# Altium schematic symbol library qinshiysb-STM32F4.SchLib: 135 symbols (part 27 of 29)
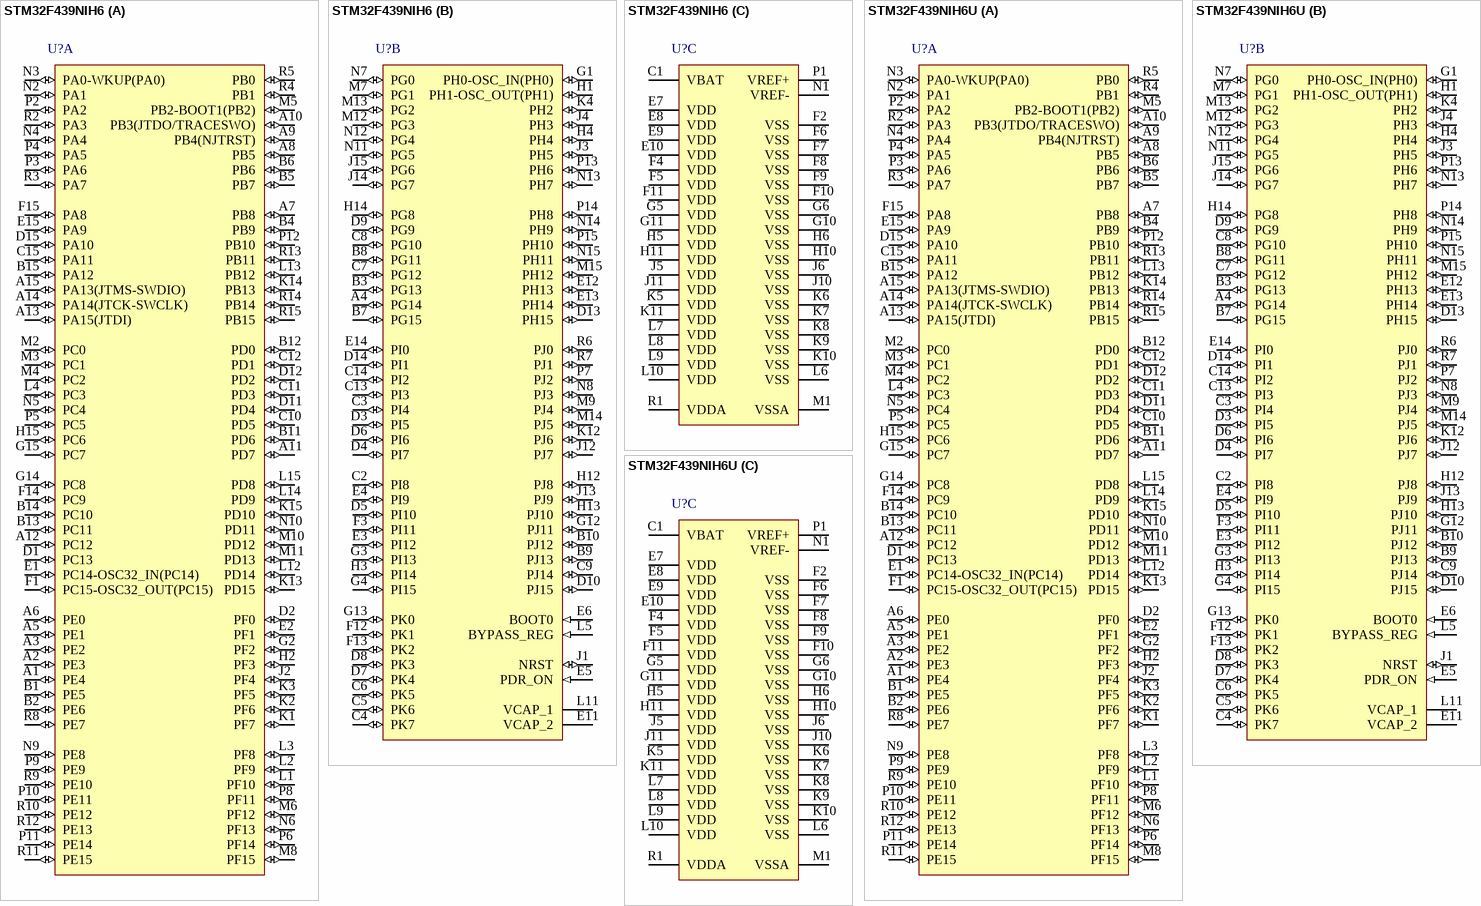
[diagram p65: symbols STM32F439NIH6 to STM32F439NIH6U]

## STM32F439NIH6U
designator U?
ARM Cortex-M4 32-bit MCU+FPU, 225 DMIPS, 2048 kB Flash, 256 kB Internal RAM, 168 I/Os, 216-pin TFBGA, -40 to 85 degC, Tray; Manufacturer: STMicroelectronics; PartNumber: STM32F439NIH6U; D/A Converter: 2x12-bit; FLASH Size (Prog) (kB): 2048; I/Os (High Current): 168; Internal RAM Size (kB): 256; Operating Frequency(F) (Processor speed) (MHz): 180; Supply Voltage(Vcc) max (V): 3.6; Supply Voltage(Vcc) min (V): 1.8; DatasheetVersion: Rev. 2; PackageVersion: Rev. 2, 05/2013; PackageReference: TFBGA216; PackageDescription: 216-Ball Ultra Thin Fine Pitch Ball Grid Array, 13 x 13 x 0.8 mm Body, 0.8 mm Pitch; Supplier 1: Mouser; Supplier Part Number 1: N/A; Core: ARM Cortex-M4; Packing: Tray; Mounting Technology: Surface Mount; ComponentLink1Description: Manufacturer URL; ComponentLink1URL: http://www.st.com/web/en/home.html; ComponentLink2Description: Datasheet; ComponentLink2URL: http://www.st.com/st-web-ui/static/active/en/resource/technical/document/data_brief/DM00055510.pdf; ComponentLink3Description: Package Specification; ComponentLink3URL: http://www.st.com/st-web-ui/static/active/en/resource/technical/document/data_brief/DM00053488.pdf
footprint STM-TFBGA216 (BGA, 216-Balls, Body 13x13mm, Pitch 0.8mm)
part A pins: A1 PE4 (io) "PE4/TRACED1,SPI4_NSS,SAI1_FS_A,FMC_A20,DCMI_D4,LCD_B0,EVENTOUT", A2 PE3 (io) "PE3/TRACED0,SAI1_SD_B,FMC_A19,EVENTOUT", A3 PE2 (io) "PE2/TRACECLK,SPI4_SCK,SAI1_MCLK_A,ETH_MII_TXD3,FMC_A23,EVENTOUT", A5 PE1 (io) "PE1/UART8_TX,FMC_NBL1,DCMI_D3,EVENTOUT", A6 PE0 (io) "PE0/TIM4_ETR,UART8_RX,FMC_NBL0,DCMI_D2,EVENTOUT", A7 PB8 (io) "PB8/TIM4_CH3,TIM10_CH1,I2C1_SCL,CAN1_RX,ETH_MII_TXD3,SDIO_D4,DCMI_D6,LCD_B6,EVENTOUT", A8 PB5 (io) "PB5/TIM3_CH2,I2C1_SMBA,SPI1_MOSI,SPI3_MOSI/I2S3_SD,CAN2_RX,OTG_HS_ULPI_D7,ETH_PPS_OUT,FMC_SDCKE1,DCMI_D10,EVENTOUT", A9 PB4(NJTRST) (io) "PB4(NJTRST)/NJTRST,TIM3_CH1,SPI1_MISO,SPI3_MISO,I2S3ext_SD,EVENTOUT", A10 PB3(JTDO/TRACESWO) (io) "PB3(JTDO/TRACESWO)/JTDO/TRACESWO,TIM2_CH2,SPI1_SCK,SPI3_SCK/I2S3_CK,EVENTOUT", A11 PD7 (io) "PD7/USART2_CK,FMC_NE1/FMC_NCE2,EVENTOUT", A12 PC12 (io) "PC12/SPI3_MOSI/I2S3_SD,USART3_CK,UART5_TX,SDIO_CK,DCMI_D9,EVENTOUT", A13 PA15(JTDI) (io) "PA15(JTDI)/JTDI,TIM2_CH1/TIM2_ETR,SPI1_NSS,SPI3_NSS/I2S3_WS,EVENTOUT", A14 PA14(JTCK-SWCLK) (io) "PA14(JTCK-SWCLK)/JTCK-SWCLK/EVENTOUT", A15 PA13(JTMS-SWDIO) (io) "PA13(JTMS-SWDIO)/JTMS-SWDIO,EVENTOUT", B1 PE5 (io) "PE5/TRACED2,TIM9_CH1,SPI4_MISO,SAI1_SCK_A,FMC_A21,DCMI_D6,LCD_G0,EVENTOUT", B2 PE6 (io) "PE6/TRACED3,TIM9_CH2,SPI4_MOSI,SAI1_SD_A,FMC_A22,DCMI_D7,LCD_G1,EVENTOUT", B4 PB9 (io) "PB9/TIM4_CH4,TIM11_CH1,I2C1_SDA,SPI2_NSS/I2S2_WS,CAN1_TX,SDIO_D5,DCMI_D7,LCD_B7,EVENTOUT", B5 PB7 (io) "PB7/TIM4_CH2,I2C1_SDA,USART1_RX,FMC_NL,DCMI_VSYNC,EVENTOUT", B6 PB6 (io) "PB6/TIM4_CH1,I2C1_SCL,USART1_TX,CAN2_TX,FMC_SDNE1,DCMI_D5,EVENTOUT", B11 PD6 (io) "PD6/SPI3_MOSI/I2S3_SD,SAI1_SD_A,USART2_RX,FMC_NWAIT,DCMI_D10,LCD_B2,EVENTOUT", B12 PD0 (io) "PD0/CAN1_RX,FMC_D2,EVENTOUT", B13 PC11 (io) "PC11/I2S3ext_SD,SPI3_MISO,USART3_RX,UART4_RX,SDIO_D3,DCMI_D4,EVENTOUT", B14 PC10 (io) "PC10/SPI3_SCK/I2S3_CK,USART3_TX,UART4_TX,SDIO_D2,DCMI_D8,LCD_R2,EVENTOUT", B15 PA12 (io) "PA12/TIM1_ETR,USART1_RTS,CAN1_TX,LCD_R5,EVENTOUT/OTG_FS_DP", C10 PD5 (io) "PD5/USART2_TX,FMC_NWE,EVENTOUT", C11 PD3 (io) "PD3/SPI2_SCK/I2S2_CK,USART2_CTS,FMC_CLK,DCMI_D5,LCD_G7,EVENTOUT", C12 PD1 (io) "PD1/CAN1_TX,FMC_D3,EVENTOUT", C15 PA11 (io) "PA11/TIM1_CH4,USART1_CTS,CAN1_RX,LCD_R4,EVENTOUT/OTG_FS_DM", D1 PC13 (io) "PC13/EVENTOUT/TAMP_1", D2 PF0 (io) "PF0/I2C2_SDA,FMC_A0,EVENTOUT", D11 PD4 (io) "PD4/USART2_RTS,FMC_NOE,EVENTOUT", D12 PD2 (io) "PD2/TIM3_ETR,UART5_RX,SDIO_CMD,DCMI_D11,EVENTOUT", D15 PA10 (io) "PA10/TIM1_CH3,USART1_RX,OTG_FS_ID,DCMI_D1,EVENTOUT", E1 PC14-OSC32_IN(PC14) (io) "PC14-OSC32_IN(PC14)/EVENTOUT/OSC32_IN", E2 PF1 (io) "PF1/I2C2_SCL,FMC_A1,EVENTOUT", E15 PA9 (io) "PA9/TIM1_CH2,I2C3_SMBA,USART1_TX,DCMI_D0,EVENTOUT/OTG_FS_VBUS", F1 PC15-OSC32_OUT(PC15) (io) "PC15-OSC32_OUT(PC15)/EVENTOUT/OSC32_OUT", F14 PC9 (io) "PC9/MCO2,TIM3_CH4,TIM8_CH4,I2C3_SDA,I2S_CKIN,SDIO_D1,DCMI_D3,EVENTOUT", F15 PA8 (io) "PA8/MCO1,TIM1_CH1,I2C3_SCL,USART1_CK,OTG_FS_SOF,LCD_R6,EVENTOUT", G2 PF2 (io) "PF2/I2C2_SMBA,FMC_A2,EVENTOUT", G14 PC8 (io) "PC8/TIM3_CH3,TIM8_CH3,USART6_CK,SDIO_D0,DCMI_D2,EVENTOUT", G15 PC7 (io) "PC7/TIM3_CH2,TIM8_CH2,I2S3_MCK,USART6_RX,SDIO_D7,DCMI_D1,LCD_G6,EVENTOUT", H2 PF3 (io) "PF3/FMC_A3,EVENTOUT/ADC3_IN9", H15 PC6 (io) "PC6/TIM3_CH1,TIM8_CH1,I2S2_MCK,USART6_TX,SDIO_D6,DCMI_D0,LCD_HSYNC,EVENTOUT", J2 PF4 (io) "PF4/FMC_A4,EVENTOUT/ADC3_IN14", K1 PF7 (io) "PF7/TIM11_CH1,SPI5_SCK,SAI1_MCLK_B,UART7_TX,FMC_NREG,EVENTOUT/ADC3_IN5", K2 PF6 (io) "PF6/TIM10_CH1,SPI5_NSS,SAI1_SD_B,UART7_RX,FMC_NIORD,EVENTOUT/ADC3_IN4", K3 PF5 (io) "PF5/FMC_A5,EVENTOUT/ADC3_IN15", K13 PD15 (io) "PD15/TIM4_CH4,FMC_D1,EVENTOUT", K14 PB13 (io) "PB13/TIM1_CH1N,SPI2_SCK/I2S2_CK,USART3_CTS,CAN2_TX,OTG_HS_ULPI_D6,ETH_MII_TXD1/ETH_RMII_TXD1,EVENTOUT/OTG_HS_VBUS", K15 PD10 (io) "PD10/USART3_CK,FMC_D15,LCD_B3,EVENTOUT", L1 PF10 (io) "PF10/FMC_INTR,DCMI_D11,LCD_DE,EVENTOUT/ADC3_IN8", L2 PF9 (io) "PF9/SPI5_MOSI,SAI1_FS_B,TIM14_CH1,FMC_CD,EVENTOUT/ADC3_IN7", L3 PF8 (io) "PF8/SPI5_MISO,SAI1_SCK_B,TIM13_CH1,FMC_NIOWR,EVENTOUT/ADC3_IN6", L4 PC3 (io) "PC3/SPI2_MOSI/I2S2_SD,OTG_HS_ULPI_NXT,ETH_MII_TX_CLK,FMC_SDCKE0,EVENTOUT/ADC123_IN13", L12 PD14 (io) "PD14/TIM4_CH3,FMC_D0,EVENTOUT", L13 PB12 (io) "PB12/TIM1_BKIN,I2C2_SMBA,SPI2_NSS/I2S2_WS,USART3_CK,CAN2_RX,OTG_HS_ULPI_D5,ETH_MII_TXD0/ETH_RMII_TXD0,OTG_HS_ID,EVENTOUT", L14 PD9 (io) "PD9/USART3_RX,FMC_D14,EVENTOUT", L15 PD8 (io) "PD8/USART3_TX,FMC_D13,EVENTOUT", M2 PC0 (io) "PC0/OTG_HS_ULPI_STP,FMC_SDNWE,EVENTOUT/ADC123_IN10", M3 PC1 (io) "PC1/ETH_MDC,EVENTOUT/ADC123_IN11", M4 PC2 (io) "PC2/SPI2_MISO,I2S2ext_SD,OTG_HS_ULPI_DIR,ETH_MII_TXD2,FMC_SDNE0,EVENTOUT/ADC123_IN12", M5 PB2-BOOT1(PB2) (io) "PB2-BOOT1(PB2)/EVENTOUT", M6 PF12 (io) "PF12/FMC_A6,EVENTOUT", M8 PF15 (io) "PF15/FMC_A9,EVENTOUT", M10 PD12 (io) "PD12/TIM4_CH1,USART3_RTS,FMC_A17,EVENTOUT", M11 PD13 (io) "PD13/TIM4_CH2,FMC_A18,EVENTOUT", N2 PA1 (io) "PA1/TIM2_CH2,TIM5_CH2,USART2_RTS,UART4_RX,ETH_MII_RX_CLK/ETH_RMII_REF_CLK,EVENTOUT/ADC123_IN1", N3 PA0-WKUP(PA0) (io) "PA0-WKUP(PA0)/TIM2_CH1/TIM2_ETR,TIM5_CH1,TIM8_ETR,USART2_CTS,UART4_TX,ETH_MII_CRS,EVENTOUT/ADC123_IN0/WKUP", N4 PA4 (io) "PA4/SPI1_NSS,SPI3_NSS/I2S3_WS,USART2_CK,OTG_HS_SOF,DCMI_HSYNC,LCD_VSYNC,EVENTOUT/ADC12_IN4/DAC_OUT1", N5 PC4 (io) "PC4/ETH_MII_RXD0/ETH_RMII_RXD0,EVENTOUT/ADC12_IN14", N6 PF13 (io) "PF13/FMC_A7,EVENTOUT", N9 PE8 (io) "PE8/TIM1_CH1N,UART7_TX,FMC_D5,EVENTOUT", N10 PD11 (io) "PD11/USART3_CTS,FMC_A16,EVENTOUT", P2 PA2 (io) "PA2/TIM2_CH3,TIM5_CH3,TIM9_CH1,USART2_TX,ETH_MDIO,EVENTOUT/ADC123_IN2", P3 PA6 (io) "PA6/TIM1_BKIN,TIM3_CH1,TIM8_BKIN,SPI1_MISO,TIM13_CH1,DCMI_PIXCLK,LCD_G2,EVENTOUT/ADC12_IN6", P4 PA5 (io) "PA5/TIM2_CH1/TIM2_ETR,TIM8_CH1N,SPI1_SCK,OTG_HS_ULPI_CK,EVENTOUT/ADC12_IN5/DAC_OUT2", P5 PC5 (io) "PC5/ETH_MII_RXD1/ETH_RMII_RXD1,EVENTOUT/ADC12_IN15", P6 PF14 (io) "PF14/FMC_A8,EVENTOUT", P8 PF11 (io) "PF11/SPI5_MOSI,FMC_SDNRAS,DCMI_D12,EVENTOUT", P9 PE9 (io) "PE9/TIM1_CH1,FMC_D6,EVENTOUT", P10 PE11 (io) "PE11/TIM1_CH2,SPI4_NSS,FMC_D8,LCD_G3,EVENTOUT", P11 PE14 (io) "PE14/TIM1_CH4,SPI4_MOSI,FMC_D11,LCD_CLK,EVENTOUT", P12 PB10 (io) "PB10/TIM2_CH3,I2C2_SCL,SPI2_SCK/I2S2_CK,USART3_TX,OTG_HS_ULPI_D3,ETH_MII_RX_ER,LCD_G4,EVENTOUT", R2 PA3 (io) "PA3/TIM2_CH4,TIM5_CH4,TIM9_CH2,USART2_RX,OTG_HS_ULPI_D0,ETH_MII_COL,LCD_B5,EVENTOUT/ADC123_IN3", R3 PA7 (io) "PA7/TIM1_CH1N,TIM3_CH2,TIM8_CH1N,SPI1_MOSI,TIM14_CH1,ETH_MII_RX_DV/ETH_RMII_CRS_DV,EVENTOUT/ADC12_IN7", R4 PB1 (io) "PB1/TIM1_CH3N,TIM3_CH4,TIM8_CH3N,LCD_R6,OTG_HS_ULPI_D2,ETH_MII_RXD3,EVENTOUT/ADC12_IN9", R5 PB0 (io) "PB0/TIM1_CH2N,TIM3_CH3,TIM8_CH2N,LCD_R3,OTG_HS_ULPI_D1,ETH_MII_RXD2,EVENTOUT/ADC12_IN8", R8 PE7 (io) "PE7/TIM1_ETR,UART7_RX,FMC_D4,EVENTOUT", R9 PE10 (io) "PE10/TIM1_CH2N,FMC_D7,EVENTOUT", R10 PE12 (io) "PE12/TIM1_CH3N,SPI4_SCK,FMC_D9,LCD_B4,EVENTOUT", R11 PE15 (io) "PE15/TIM1_BKIN,FMC_D12,LCD_R7,EVENTOUT", R12 PE13 (io) "PE13/TIM1_CH3,SPI4_MISO,FMC_D10,LCD_DE,EVENTOUT", R13 PB11 (io) "PB11/TIM2_CH4,I2C2_SDA,USART3_RX,OTG_HS_ULPI_D4,ETH_MII_TX_EN/ETH_RMII_TX_EN,LCD_G5,EVENTOUT", R14 PB14 (io) "PB14/TIM1_CH2N,TIM8_CH2N,SPI2_MISO,I2S2ext_SD,USART3_RTS,TIM12_CH1,EVENTOUT/OTG_HS_DM", R15 PB15 (io) "PB15/RTC_REFIN,TIM1_CH3N,TIM8_CH3N,SPI2_MOSI/I2S2_SD,TIM12_CH2,EVENTOUT/OTG_HS_DP"
part B pins: A4 PG14 (io) "PG14/SPI6_MOSI,USART6_TX,ETH_MII_TXD1/ETH_RMII_TXD1,FMC_A25,EVENTOUT", B3 PG13 (io) "PG13/SPI6_SCK,USART6_CTS,ETH_MII_TXD0/ETH_RMII_TXD0,FMC_A24,EVENTOUT", B7 PG15 (io) "PG15/USART6_CTS,FMC_SDNCAS,DCMI_D13,EVENTOUT", B8 PG11 (io) "PG11/ETH_MII_TX_EN/ETH_RMII_TX_EN,FMC_NCE4_2,DCMI_D3,LCD_B3,EVENTOUT", B9 PJ13 (io) "PJ13/LCD_B1,EVENTOUT", B10 PJ12 (io) "PJ12/LCD_B0,EVENTOUT", C2 PI8 (io) "PI8/EVENTOUT/TAMP_2", C3 PI4 (io) "PI4/TIM8_BKIN,FMC_NBL2,DCMI_D5,LCD_B4,EVENTOUT", C4 PK7 (io) "PK7/LCD_DE,EVENTOUT", C5 PK6 (io) "PK6/LCD_B7,EVENTOUT", C6 PK5 (io) "PK5/LCD_B6,EVENTOUT", C7 PG12 (io) "PG12/SPI6_MISO,USART6_RTS,LCD_B4,FMC_NE4,LCD_B1,EVENTOUT", C8 PG10 (io) "PG10/LCD_G3,FMC_NCE4_1/FMC_NE3,DCMI_D2,LCD_B2,EVENTOUT", C9 PJ14 (io) "PJ14/LCD_B2,EVENTOUT", C13 PI3 (io) "PI3/TIM8_ETR,SPI2_MOSI/I2S2_SD,FMC_D27,DCMI_D10,EVENTOUT", C14 PI2 (io) "PI2/TIM8_CH4,SPI2_MISO,I2S2ext_SD,FMC_D26,DCMI_D9,LCD_G7,EVENTOUT", D3 PI5 (io) "PI5/TIM8_CH1,FMC_NBL3,DCMI_VSYNC,LCD_B5,EVENTOUT", D4 PI7 (io) "PI7/TIM8_CH3,FMC_D29,DCMI_D7,LCD_B7,EVENTOUT", D5 PI10 (io) "PI10/ETH_MII_RX_ER,FMC_D31,LCD_HSYNC,EVENTOUT", D6 PI6 (io) "PI6/TIM8_CH2,FMC_D28,DCMI_D6,LCD_B6,EVENTOUT", D7 PK4 (io) "PK4/LCD_B5,EVENTOUT", D8 PK3 (io) "PK3/LCD_B4,EVENTOUT", D9 PG9 (io) "PG9/USART6_RX,FMC_NE2/FMC_NCE3,EVENTOUT", D10 PJ15 (io) "PJ15/LCD_B3,EVENTOUT", D13 PH15 (io) "PH15/TIM8_CH3N,FMC_D23,DCMI_D11,LCD_G4,EVENTOUT", D14 PI1 (io) "PI1/SPI2_SCK/I2S2_CK,FMC_D25,DCMI_D8,LCD_G6,EVENTOUT", E3 PI12 (io) "PI12/LCD_HSYNC,EVENTOUT", E4 PI9 (io) "PI9/CAN1_RX,FMC_D30,LCD_VSYNC,EVENTOUT", E5 PDR_ON (in), E6 BOOT0 (in) "BOOT0/VPP", E11 VCAP_2 (power), E12 PH13 (io) "PH13/TIM8_CH1N,CAN1_TX,FMC_D21,LCD_G2,EVENTOUT", E13 PH14 (io) "PH14/TIM8_CH2N,FMC_D22,DCMI_D4,LCD_G3,EVENTOUT", E14 PI0 (io) "PI0/TIM5_CH4,SPI2_NSS/I2S2_WS,FMC_D24,DCMI_D13,LCD_G5,EVENTOUT", F3 PI11 (io) "PI11/OTG_HS_ULPI_DIR,EVENTOUT", F12 PK1 (io) "PK1/LCD_G6,EVENTOUT", F13 PK2 (io) "PK2/LCD_G7,EVENTOUT", G1 PH0-OSC_IN(PH0) (io) "PH0-OSC_IN(PH0)/EVENTOUT/OSC_IN", G3 PI13 (io) "PI13/LCD_VSYNC,EVENTOUT", G4 PI15 (io) "PI15/LCD_R0,EVENTOUT", G12 PJ11 (io) "PJ11/LCD_G4,EVENTOUT", G13 PK0 (io) "PK0/LCD_G5,EVENTOUT", H1 PH1-OSC_OUT(PH1) (io) "PH1-OSC_OUT(PH1)/EVENTOUT/OSC_OUT", H3 PI14 (io) "PI14/LCD_CLK,EVENTOUT", H4 PH4 (io) "PH4/I2C2_SCL,OTG_HS_ULPI_NXT,EVENTOUT", H12 PJ8 (io) "PJ8/LCD_G1,EVENTOUT", H13 PJ10 (io) "PJ10/LCD_G3,EVENTOUT", H14 PG8 (io) "PG8/SPI6_NSS,USART6_RTS,ETH_PPS_OUT,FMC_SDCLK,EVENTOUT", J1 NRST (io), J3 PH5 (io) "PH5/I2C2_SDA,SPI5_NSS,FMC_SDNWE,EVENTOUT", J4 PH3 (io) "PH3/ETH_MII_COL,FMC_SDNE0,LCD_R1,EVENTOUT", J12 PJ7 (io) "PJ7/LCD_G0,EVENTOUT", J13 PJ9 (io) "PJ9/LCD_G2,EVENTOUT", J14 PG7 (io) "PG7/USART6_CK,FMC_INT3,DCMI_D13,LCD_CLK,EVENTOUT", J15 PG6 (io) "PG6/FMC_INT2,DCMI_D12,LCD_R7,EVENTOUT", K4 PH2 (io) "PH2/ETH_MII_CRS,FMC_SDCKE0,LCD_R0,EVENTOUT", K12 PJ6 (io) "PJ6/LCD_R7,EVENTOUT", L5 BYPASS_REG (in), L11 VCAP_1 (power), M7 PG1 (io) "PG1/FMC_A11,EVENTOUT", M9 PJ4 (io) "PJ4/LCD_R5,EVENTOUT", M12 PG3 (io) "PG3/FMC_A13,EVENTOUT", M13 PG2 (io) "PG2/FMC_A12,EVENTOUT", M14 PJ5 (io) "PJ5/LCD_R6,EVENTOUT", M15 PH12 (io) "PH12/TIM5_CH3,FMC_D20,DCMI_D3,LCD_R6,EVENTOUT", N7 PG0 (io) "PG0/FMC_A10,EVENTOUT", N8 PJ3 (io) "PJ3/LCD_R4,EVENTOUT", N11 PG5 (io) "PG5/FMC_A15/FMC_BA1,EVENTOUT", N12 PG4 (io) "PG4/FMC_A14/FMC_BA0,EVENTOUT", N13 PH7 (io) "PH7/I2C3_SCL,SPI5_MISO,ETH_MII_RXD3,FMC_SDCKE1,DCMI_D9,EVENTOUT", N14 PH9 (io) "PH9/I2C3_SMBA,TIM12_CH2,FMC_D17,DCMI_D0,LCD_R3,EVENTOUT", N15 PH11 (io) "PH11/TIM5_CH2,FMC_D19,DCMI_D2,LCD_R5,EVENTOUT", P7 PJ2 (io) "PJ2/LCD_R3,EVENTOUT", P13 PH6 (io) "PH6/I2C2_SMBA,SPI5_SCK,TIM12_CH1,ETH_MII_RXD2,FMC_SDNE1,DCMI_D8,EVENTOUT", P14 PH8 (io) "PH8/I2C3_SDA,FMC_D16,DCMI_HSYNC,LCD_R2,EVENTOUT", P15 PH10 (io) "PH10/TIM5_CH1,FMC_D18,DCMI_D1,LCD_R4,EVENTOUT", R6 PJ0 (io) "PJ0/LCD_R1,EVENTOUT", R7 PJ1 (io) "PJ1/LCD_R2,EVENTOUT"
part C pins: C1 VBAT (power), E7 VDD (power), E8 VDD (power), E9 VDD (power), E10 VDD (power), F2 VSS (power), F4 VDD (power), F5 VDD (power), F6 VSS (power), F7 VSS (power), F8 VSS (power), F9 VSS (power), F10 VSS (power), F11 VDD (power), G5 VDD (power), G6 VSS (power), G10 VSS (power), G11 VDD (power), H5 VDD (power), H6 VSS (power), H10 VSS (power), H11 VDD (power), J5 VDD (power), J6 VSS (power), J10 VSS (power), J11 VDD (power), K5 VDD (power), K6 VSS (power), K7 VSS (power), K8 VSS (power), K9 VSS (power), K10 VSS (power), K11 VDD (power), L6 VSS (power), L7 VDD (power), L8 VDD (power), L9 VDD (power), L10 VDD (power), M1 VSSA (power), N1 VREF- (power), P1 VREF+ (power), R1 VDDA (power)

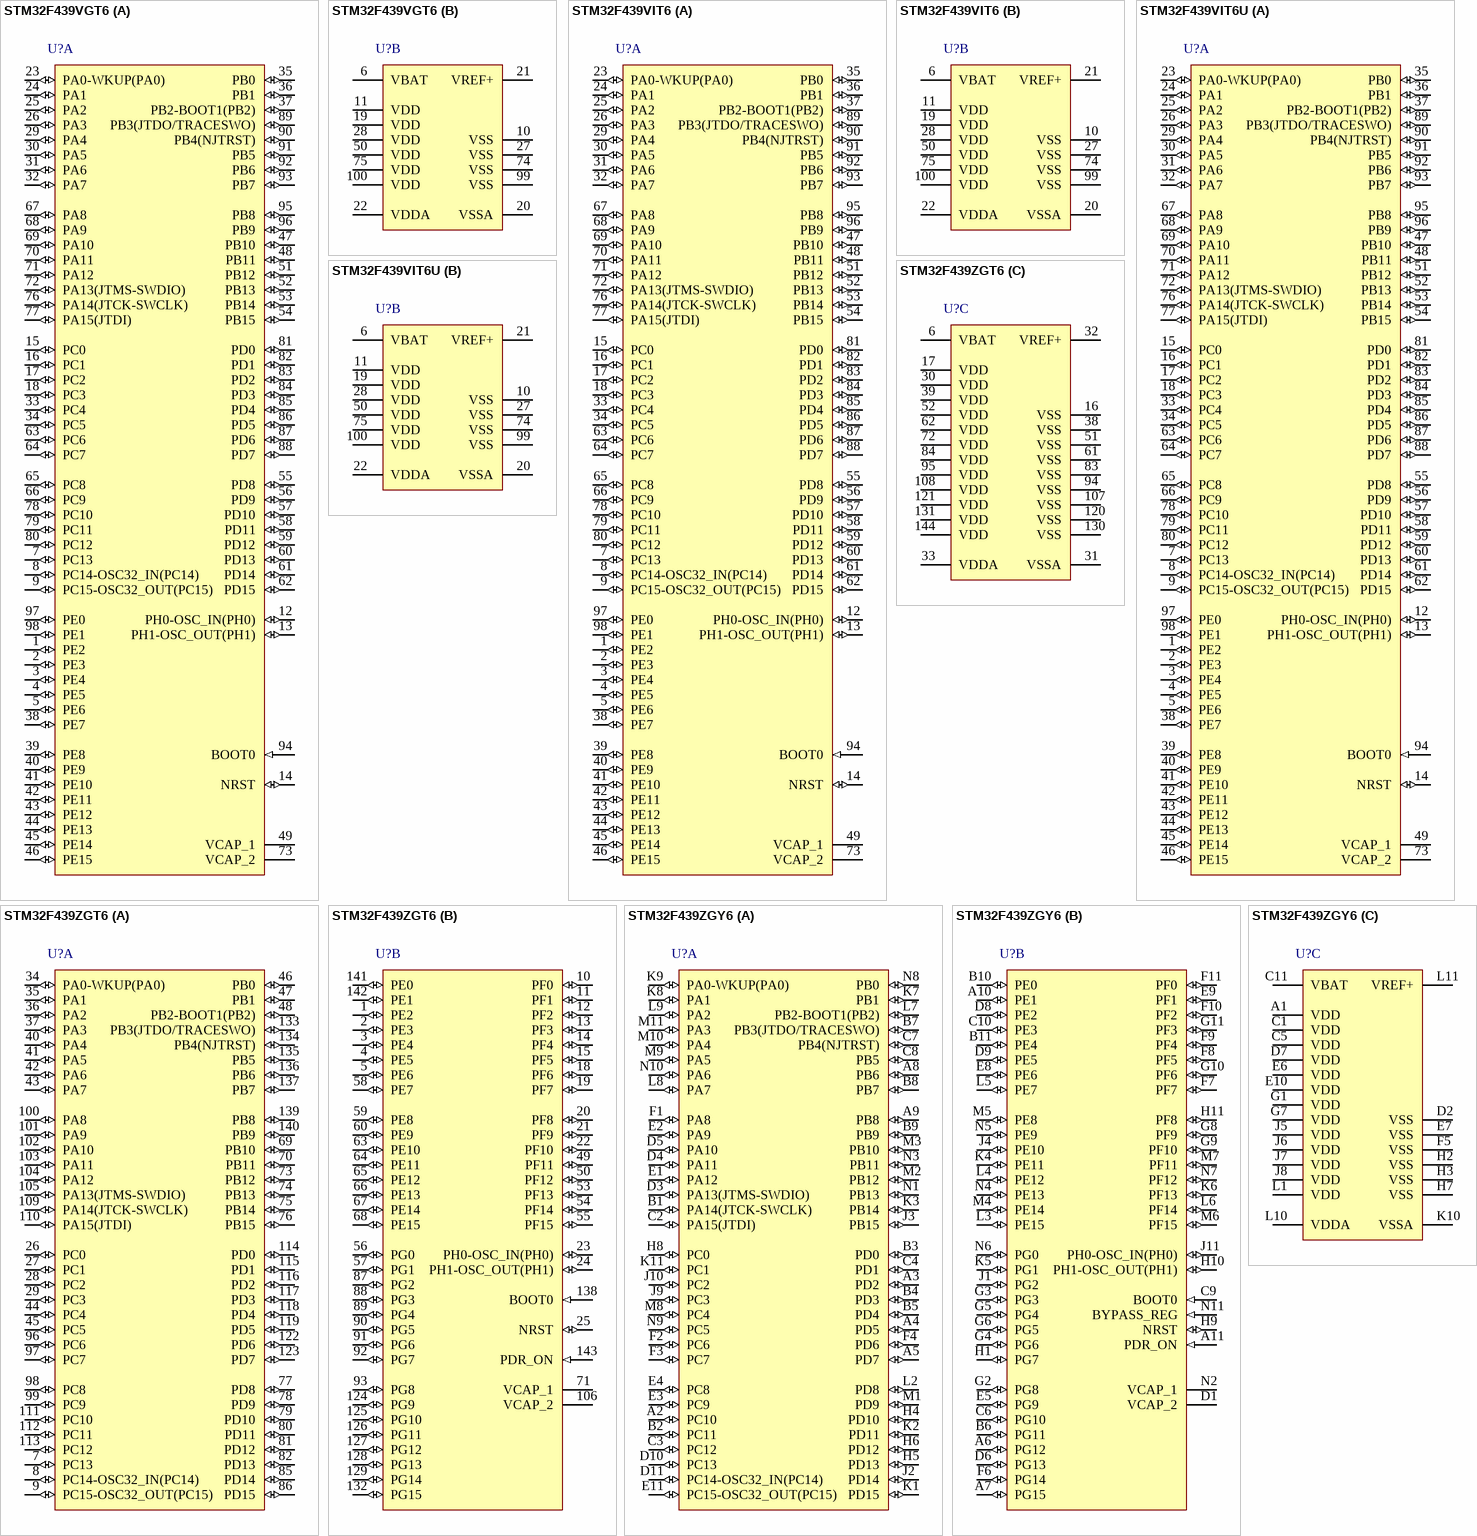
[diagram p37: symbols STM32F439VGT6 to STM32F439ZGY6]

## STM32F439VGT6
designator U?
ARM Cortex-M4 32-bit MCU+FPU, 225 DMIPS, 1024 kB Flash, 256 kB Internal RAM, 82 I/Os, 100-pin LQFP, -40 to 85 degC, Tray; Manufacturer: STMicroelectronics; PartNumber: STM32F439VGT6; D/A Converter: 2x12-bit; FLASH Size (Prog) (kB): 1024; I/Os (High Current): 82; Internal RAM Size (kB): 256; Operating Frequency(F) (Processor speed) (MHz): 180; Supply Voltage(Vcc) max (V): 3.6; Supply Voltage(Vcc) min (V): 1.8; DatasheetVersion: Rev. 2; PackageVersion: Rev. 1, 06/2013; PackageReference: LQFP100; PackageDescription: 100-Pin Low Profile Quad Flat Package, 14 x 14 mm Body, 0.5 mm Pitch; Supplier 1: Digi-Key; Supplier Part Number 1: STM32F439VGT6-ND; Supplier 2: Newark; Supplier Part Number 2: 06X3684; Supplier 3: Mouser; Supplier Part Number 3: 511-STM32F439VGT6; Core: ARM Cortex-M4; Packing: Tray; Mounting Technology: Surface Mount; ComponentLink1Description: Manufacturer URL; ComponentLink1URL: http://www.st.com/web/en/home.html; ComponentLink2Description: Datasheet; ComponentLink2URL: http://www.st.com/st-web-ui/static/active/en/resource/technical/document/data_brief/DM00055510.pdf; ComponentLink3Description: Package Specification; ComponentLink3URL: http://www.st.com/st-web-ui/static/active/en/resource/technical/document/data_brief/DM00071938.pdf
footprint STM-LQFP100_N (Thin QFP, 100-Leads, Body 14x14mm, Pitch 0.5mm, IPC Medium Density)
footprint STM-LQFP100_L (Thin QFP, 100-Leads, Body 14x14mm, Pitch 0.5mm, IPC High Density)
footprint STM-LQFP100_M (Thin QFP, 100-Leads, Body 14x14mm, Pitch 0.5mm, IPC Low Density)
footprint STM-LQFP100_V (Thin QFP, 100-Leads, Body 14x14mm, Pitch 0.5mm, ST Recommended)
part A pins: 1 PE2 (io) "PE2/TRACECLK,SPI4_SCK,SAI1_MCLK_A,ETH_MII_TXD3,FMC_A23,EVENTOUT", 2 PE3 (io) "PE3/TRACED0,SAI1_SD_B,FMC_A19,EVENTOUT", 3 PE4 (io) "PE4/TRACED1,SPI4_NSS,SAI1_FS_A,FMC_A20,DCMI_D4,LCD_B0,EVENTOUT", 4 PE5 (io) "PE5/TRACED2,TIM9_CH1,SPI4_MISO,SAI1_SCK_A,FMC_A21,DCMI_D6,LCD_G0,EVENTOUT", 5 PE6 (io) "PE6/TRACED3,TIM9_CH2,SPI4_MOSI,SAI1_SD_A,FMC_A22,DCMI_D7,LCD_G1,EVENTOUT", 7 PC13 (io) "PC13/EVENTOUT/TAMP_1", 8 PC14-OSC32_IN(PC14) (io) "PC14-OSC32_IN(PC14)/EVENTOUT/OSC32_IN", 9 PC15-OSC32_OUT(PC15) (io) "PC15-OSC32_OUT(PC15)/EVENTOUT/OSC32_OUT", 12 PH0-OSC_IN(PH0) (io) "PH0-OSC_IN(PH0)/EVENTOUT/OSC_IN", 13 PH1-OSC_OUT(PH1) (io) "PH1-OSC_OUT(PH1)/EVENTOUT/OSC_OUT", 14 NRST (io), 15 PC0 (io) "PC0/OTG_HS_ULPI_STP,FMC_SDNWE,EVENTOUT/ADC123_IN10", 16 PC1 (io) "PC1/ETH_MDC,EVENTOUT/ADC123_IN11", 17 PC2 (io) "PC2/SPI2_MISO,I2S2ext_SD,OTG_HS_ULPI_DIR,ETH_MII_TXD2,FMC_SDNE0,EVENTOUT/ADC123_IN12", 18 PC3 (io) "PC3/SPI2_MOSI/I2S2_SD,OTG_HS_ULPI_NXT,ETH_MII_TX_CLK,FMC_SDCKE0,EVENTOUT/ADC123_IN13", 23 PA0-WKUP(PA0) (io) "PA0-WKUP(PA0)/TIM2_CH1/TIM2_ETR,TIM5_CH1,TIM8_ETR,USART2_CTS,UART4_TX,ETH_MII_CRS,EVENTOUT/ADC123_IN0/WKUP", 24 PA1 (io) "PA1/TIM2_CH2,TIM5_CH2,USART2_RTS,UART4_RX,ETH_MII_RX_CLK/ETH_RMII_REF_CLK,EVENTOUT/ADC123_IN1", 25 PA2 (io) "PA2/TIM2_CH3,TIM5_CH3,TIM9_CH1,USART2_TX,ETH_MDIO,EVENTOUT/ADC123_IN2", 26 PA3 (io) "PA3/TIM2_CH4,TIM5_CH4,TIM9_CH2,USART2_RX,OTG_HS_ULPI_D0,ETH_MII_COL,LCD_B5,EVENTOUT/ADC123_IN3", 29 PA4 (io) "PA4/SPI1_NSS,SPI3_NSS/I2S3_WS,USART2_CK,OTG_HS_SOF,DCMI_HSYNC,LCD_VSYNC,EVENTOUT/ADC12_IN4/DAC_OUT1", 30 PA5 (io) "PA5/TIM2_CH1/TIM2_ETR,TIM8_CH1N,SPI1_SCK,OTG_HS_ULPI_CK,EVENTOUT/ADC12_IN5/DAC_OUT2", 31 PA6 (io) "PA6/TIM1_BKIN,TIM3_CH1,TIM8_BKIN,SPI1_MISO,TIM13_CH1,DCMI_PIXCLK,LCD_G2,EVENTOUT/ADC12_IN6", 32 PA7 (io) "PA7/TIM1_CH1N,TIM3_CH2,TIM8_CH1N,SPI1_MOSI,TIM14_CH1,ETH_MII_RX_DV/ETH_RMII_CRS_DV,EVENTOUT/ADC12_IN7", 33 PC4 (io) "PC4/ETH_MII_RXD0/ETH_RMII_RXD0,EVENTOUT/ADC12_IN14", 34 PC5 (io) "PC5/ETH_MII_RXD1/ETH_RMII_RXD1,EVENTOUT/ADC12_IN15", 35 PB0 (io) "PB0/TIM1_CH2N,TIM3_CH3,TIM8_CH2N,LCD_R3,OTG_HS_ULPI_D1,ETH_MII_RXD2,EVENTOUT/ADC12_IN8", 36 PB1 (io) "PB1/TIM1_CH3N,TIM3_CH4,TIM8_CH3N,LCD_R6,OTG_HS_ULPI_D2,ETH_MII_RXD3,EVENTOUT/ADC12_IN9", 37 PB2-BOOT1(PB2) (io) "PB2-BOOT1(PB2)/EVENTOUT", 38 PE7 (io) "PE7/TIM1_ETR,UART7_RX,FMC_D4,EVENTOUT", 39 PE8 (io) "PE8/TIM1_CH1N,UART7_TX,FMC_D5,EVENTOUT", 40 PE9 (io) "PE9/TIM1_CH1,FMC_D6,EVENTOUT", 41 PE10 (io) "PE10/TIM1_CH2N,FMC_D7,EVENTOUT", 42 PE11 (io) "PE11/TIM1_CH2,SPI4_NSS,FMC_D8,LCD_G3,EVENTOUT", 43 PE12 (io) "PE12/TIM1_CH3N,SPI4_SCK,FMC_D9,LCD_B4,EVENTOUT", 44 PE13 (io) "PE13/TIM1_CH3,SPI4_MISO,FMC_D10,LCD_DE,EVENTOUT", 45 PE14 (io) "PE14/TIM1_CH4,SPI4_MOSI,FMC_D11,LCD_CLK,EVENTOUT", 46 PE15 (io) "PE15/TIM1_BKIN,FMC_D12,LCD_R7,EVENTOUT", 47 PB10 (io) "PB10/TIM2_CH3,I2C2_SCL,SPI2_SCK/I2S2_CK,USART3_TX,OTG_HS_ULPI_D3,ETH_MII_RX_ER,LCD_G4,EVENTOUT", 48 PB11 (io) "PB11/TIM2_CH4,I2C2_SDA,USART3_RX,OTG_HS_ULPI_D4,ETH_MII_TX_EN/ETH_RMII_TX_EN,LCD_G5,EVENTOUT", 49 VCAP_1 (power), 51 PB12 (io) "PB12/TIM1_BKIN,I2C2_SMBA,SPI2_NSS/I2S2_WS,USART3_CK,CAN2_RX,OTG_HS_ULPI_D5,ETH_MII_TXD0/ETH_RMII_TXD0,OTG_HS_ID,EVENTOUT", 52 PB13 (io) "PB13/TIM1_CH1N,SPI2_SCK/I2S2_CK,USART3_CTS,CAN2_TX,OTG_HS_ULPI_D6,ETH_MII_TXD1/ETH_RMII_TXD1,EVENTOUT/OTG_HS_VBUS", 53 PB14 (io) "PB14/TIM1_CH2N,TIM8_CH2N,SPI2_MISO,I2S2ext_SD,USART3_RTS,TIM12_CH1,EVENTOUT/OTG_HS_DM", 54 PB15 (io) "PB15/RTC_REFIN,TIM1_CH3N,TIM8_CH3N,SPI2_MOSI/I2S2_SD,TIM12_CH2,EVENTOUT/OTG_HS_DP", 55 PD8 (io) "PD8/USART3_TX,FMC_D13,EVENTOUT", 56 PD9 (io) "PD9/USART3_RX,FMC_D14,EVENTOUT", 57 PD10 (io) "PD10/USART3_CK,FMC_D15,LCD_B3,EVENTOUT", 58 PD11 (io) "PD11/USART3_CTS,FMC_A16,EVENTOUT", 59 PD12 (io) "PD12/TIM4_CH1,USART3_RTS,FMC_A17,EVENTOUT", 60 PD13 (io) "PD13/TIM4_CH2,FMC_A18,EVENTOUT", 61 PD14 (io) "PD14/TIM4_CH3,FMC_D0,EVENTOUT", 62 PD15 (io) "PD15/TIM4_CH4,FMC_D1,EVENTOUT", 63 PC6 (io) "PC6/TIM3_CH1,TIM8_CH1,I2S2_MCK,USART6_TX,SDIO_D6,DCMI_D0,LCD_HSYNC,EVENTOUT", 64 PC7 (io) "PC7/TIM3_CH2,TIM8_CH2,I2S3_MCK,USART6_RX,SDIO_D7,DCMI_D1,LCD_G6,EVENTOUT", 65 PC8 (io) "PC8/TIM3_CH3,TIM8_CH3,USART6_CK,SDIO_D0,DCMI_D2,EVENTOUT", 66 PC9 (io) "PC9/MCO2,TIM3_CH4,TIM8_CH4,I2C3_SDA,I2S_CKIN,SDIO_D1,DCMI_D3,EVENTOUT", 67 PA8 (io) "PA8/MCO1,TIM1_CH1,I2C3_SCL,USART1_CK,OTG_FS_SOF,LCD_R6,EVENTOUT", 68 PA9 (io) "PA9/TIM1_CH2,I2C3_SMBA,USART1_TX,DCMI_D0,EVENTOUT/OTG_FS_VBUS", 69 PA10 (io) "PA10/TIM1_CH3,USART1_RX,OTG_FS_ID,DCMI_D1,EVENTOUT", 70 PA11 (io) "PA11/TIM1_CH4,USART1_CTS,CAN1_RX,LCD_R4,EVENTOUT/OTG_FS_DM", 71 PA12 (io) "PA12/TIM1_ETR,USART1_RTS,CAN1_TX,LCD_R5,EVENTOUT/OTG_FS_DP", 72 PA13(JTMS-SWDIO) (io) "PA13(JTMS-SWDIO)/JTMS-SWDIO,EVENTOUT", 73 VCAP_2 (power), 76 PA14(JTCK-SWCLK) (io) "PA14(JTCK-SWCLK)/JTCK-SWCLK/EVENTOUT", 77 PA15(JTDI) (io) "PA15(JTDI)/JTDI,TIM2_CH1/TIM2_ETR,SPI1_NSS,SPI3_NSS/I2S3_WS,EVENTOUT", 78 PC10 (io) "PC10/SPI3_SCK/I2S3_CK,USART3_TX,UART4_TX,SDIO_D2,DCMI_D8,LCD_R2,EVENTOUT", 79 PC11 (io) "PC11/I2S3ext_SD,SPI3_MISO,USART3_RX,UART4_RX,SDIO_D3,DCMI_D4,EVENTOUT", 80 PC12 (io) "PC12/SPI3_MOSI/I2S3_SD,USART3_CK,UART5_TX,SDIO_CK,DCMI_D9,EVENTOUT", 81 PD0 (io) "PD0/CAN1_RX,FMC_D2,EVENTOUT", 82 PD1 (io) "PD1/CAN1_TX,FMC_D3,EVENTOUT", 83 PD2 (io) "PD2/TIM3_ETR,UART5_RX,SDIO_CMD,DCMI_D11,EVENTOUT", 84 PD3 (io) "PD3/SPI2_SCK/I2S2_CK,USART2_CTS,FMC_CLK,DCMI_D5,LCD_G7,EVENTOUT", 85 PD4 (io) "PD4/USART2_RTS,FMC_NOE,EVENTOUT", 86 PD5 (io) "PD5/USART2_TX,FMC_NWE,EVENTOUT", 87 PD6 (io) "PD6/SPI3_MOSI/I2S3_SD,SAI1_SD_A,USART2_RX,FMC_NWAIT,DCMI_D10,LCD_B2,EVENTOUT", 88 PD7 (io) "PD7/USART2_CK,FMC_NE1/FMC_NCE2,EVENTOUT", 89 PB3(JTDO/TRACESWO) (io) "PB3(JTDO/TRACESWO)/JTDO/TRACESWO,TIM2_CH2,SPI1_SCK,SPI3_SCK/I2S3_CK,EVENTOUT", 90 PB4(NJTRST) (io) "PB4(NJTRST)/NJTRST,TIM3_CH1,SPI1_MISO,SPI3_MISO,I2S3ext_SD,EVENTOUT", 91 PB5 (io) "PB5/TIM3_CH2,I2C1_SMBA,SPI1_MOSI,SPI3_MOSI/I2S3_SD,CAN2_RX,OTG_HS_ULPI_D7,ETH_PPS_OUT,FMC_SDCKE1,DCMI_D10,EVENTOUT", 92 PB6 (io) "PB6/TIM4_CH1,I2C1_SCL,USART1_TX,CAN2_TX,FMC_SDNE1,DCMI_D5,EVENTOUT", 93 PB7 (io) "PB7/TIM4_CH2,I2C1_SDA,USART1_RX,FMC_NL,DCMI_VSYNC,EVENTOUT", 94 BOOT0 (in) "BOOT0/VPP", 95 PB8 (io) "PB8/TIM4_CH3,TIM10_CH1,I2C1_SCL,CAN1_RX,ETH_MII_TXD3,SDIO_D4,DCMI_D6,LCD_B6,EVENTOUT", 96 PB9 (io) "PB9/TIM4_CH4,TIM11_CH1,I2C1_SDA,SPI2_NSS/I2S2_WS,CAN1_TX,SDIO_D5,DCMI_D7,LCD_B7,EVENTOUT", 97 PE0 (io) "PE0/TIM4_ETR,UART8_RX,FMC_NBL0,DCMI_D2,EVENTOUT", 98 PE1 (io) "PE1/UART8_TX,FMC_NBL1,DCMI_D3,EVENTOUT"
part B pins: 6 VBAT (power), 10 VSS (power), 11 VDD (power), 19 VDD (power), 20 VSSA (power), 21 VREF+ (power), 22 VDDA (power), 27 VSS (power), 28 VDD (power), 50 VDD (power), 74 VSS (power), 75 VDD (power), 99 VSS (power), 100 VDD (power)

## STM32F439VIT6
designator U?
ARM Cortex-M4 32-bit MCU+FPU, 225 DMIPS, 2048 kB Flash, 256 kB Internal RAM, 82 I/Os, 100-pin LQFP, -40 to 85 degC, Tray; Manufacturer: STMicroelectronics; PartNumber: STM32F439VIT6; D/A Converter: 2x12-bit; FLASH Size (Prog) (kB): 2048; I/Os (High Current): 82; Internal RAM Size (kB): 256; Operating Frequency(F) (Processor speed) (MHz): 180; Supply Voltage(Vcc) max (V): 3.6; Supply Voltage(Vcc) min (V): 1.8; DatasheetVersion: Rev. 2; PackageVersion: Rev. 1, 06/2013; PackageReference: LQFP100; PackageDescription: 100-Pin Low Profile Quad Flat Package, 14 x 14 mm Body, 0.5 mm Pitch; Supplier 1: Digi-Key; Supplier Part Number 1: STM32F439VIT6-ND; Supplier 2: Newark; Supplier Part Number 2: 06X3685; Core: ARM Cortex-M4; Packing: Tray; Mounting Technology: Surface Mount; ComponentLink1Description: Manufacturer URL; ComponentLink1URL: http://www.st.com/web/en/home.html; ComponentLink2Description: Datasheet; ComponentLink2URL: http://www.st.com/st-web-ui/static/active/en/resource/technical/document/data_brief/DM00055510.pdf; ComponentLink3Description: Package Specification; ComponentLink3URL: http://www.st.com/st-web-ui/static/active/en/resource/technical/document/data_brief/DM00071938.pdf
footprint STM-LQFP100_N (Thin QFP, 100-Leads, Body 14x14mm, Pitch 0.5mm, IPC Medium Density)
footprint STM-LQFP100_L (Thin QFP, 100-Leads, Body 14x14mm, Pitch 0.5mm, IPC High Density)
footprint STM-LQFP100_M (Thin QFP, 100-Leads, Body 14x14mm, Pitch 0.5mm, IPC Low Density)
footprint STM-LQFP100_V (Thin QFP, 100-Leads, Body 14x14mm, Pitch 0.5mm, ST Recommended)
part A pins: 1 PE2 (io) "PE2/TRACECLK,SPI4_SCK,SAI1_MCLK_A,ETH_MII_TXD3,FMC_A23,EVENTOUT", 2 PE3 (io) "PE3/TRACED0,SAI1_SD_B,FMC_A19,EVENTOUT", 3 PE4 (io) "PE4/TRACED1,SPI4_NSS,SAI1_FS_A,FMC_A20,DCMI_D4,LCD_B0,EVENTOUT", 4 PE5 (io) "PE5/TRACED2,TIM9_CH1,SPI4_MISO,SAI1_SCK_A,FMC_A21,DCMI_D6,LCD_G0,EVENTOUT", 5 PE6 (io) "PE6/TRACED3,TIM9_CH2,SPI4_MOSI,SAI1_SD_A,FMC_A22,DCMI_D7,LCD_G1,EVENTOUT", 7 PC13 (io) "PC13/EVENTOUT/TAMP_1", 8 PC14-OSC32_IN(PC14) (io) "PC14-OSC32_IN(PC14)/EVENTOUT/OSC32_IN", 9 PC15-OSC32_OUT(PC15) (io) "PC15-OSC32_OUT(PC15)/EVENTOUT/OSC32_OUT", 12 PH0-OSC_IN(PH0) (io) "PH0-OSC_IN(PH0)/EVENTOUT/OSC_IN", 13 PH1-OSC_OUT(PH1) (io) "PH1-OSC_OUT(PH1)/EVENTOUT/OSC_OUT", 14 NRST (io), 15 PC0 (io) "PC0/OTG_HS_ULPI_STP,FMC_SDNWE,EVENTOUT/ADC123_IN10", 16 PC1 (io) "PC1/ETH_MDC,EVENTOUT/ADC123_IN11", 17 PC2 (io) "PC2/SPI2_MISO,I2S2ext_SD,OTG_HS_ULPI_DIR,ETH_MII_TXD2,FMC_SDNE0,EVENTOUT/ADC123_IN12", 18 PC3 (io) "PC3/SPI2_MOSI/I2S2_SD,OTG_HS_ULPI_NXT,ETH_MII_TX_CLK,FMC_SDCKE0,EVENTOUT/ADC123_IN13", 23 PA0-WKUP(PA0) (io) "PA0-WKUP(PA0)/TIM2_CH1/TIM2_ETR,TIM5_CH1,TIM8_ETR,USART2_CTS,UART4_TX,ETH_MII_CRS,EVENTOUT/ADC123_IN0/WKUP", 24 PA1 (io) "PA1/TIM2_CH2,TIM5_CH2,USART2_RTS,UART4_RX,ETH_MII_RX_CLK/ETH_RMII_REF_CLK,EVENTOUT/ADC123_IN1", 25 PA2 (io) "PA2/TIM2_CH3,TIM5_CH3,TIM9_CH1,USART2_TX,ETH_MDIO,EVENTOUT/ADC123_IN2", 26 PA3 (io) "PA3/TIM2_CH4,TIM5_CH4,TIM9_CH2,USART2_RX,OTG_HS_ULPI_D0,ETH_MII_COL,LCD_B5,EVENTOUT/ADC123_IN3", 29 PA4 (io) "PA4/SPI1_NSS,SPI3_NSS/I2S3_WS,USART2_CK,OTG_HS_SOF,DCMI_HSYNC,LCD_VSYNC,EVENTOUT/ADC12_IN4/DAC_OUT1", 30 PA5 (io) "PA5/TIM2_CH1/TIM2_ETR,TIM8_CH1N,SPI1_SCK,OTG_HS_ULPI_CK,EVENTOUT/ADC12_IN5/DAC_OUT2", 31 PA6 (io) "PA6/TIM1_BKIN,TIM3_CH1,TIM8_BKIN,SPI1_MISO,TIM13_CH1,DCMI_PIXCLK,LCD_G2,EVENTOUT/ADC12_IN6", 32 PA7 (io) "PA7/TIM1_CH1N,TIM3_CH2,TIM8_CH1N,SPI1_MOSI,TIM14_CH1,ETH_MII_RX_DV/ETH_RMII_CRS_DV,EVENTOUT/ADC12_IN7", 33 PC4 (io) "PC4/ETH_MII_RXD0/ETH_RMII_RXD0,EVENTOUT/ADC12_IN14", 34 PC5 (io) "PC5/ETH_MII_RXD1/ETH_RMII_RXD1,EVENTOUT/ADC12_IN15", 35 PB0 (io) "PB0/TIM1_CH2N,TIM3_CH3,TIM8_CH2N,LCD_R3,OTG_HS_ULPI_D1,ETH_MII_RXD2,EVENTOUT/ADC12_IN8", 36 PB1 (io) "PB1/TIM1_CH3N,TIM3_CH4,TIM8_CH3N,LCD_R6,OTG_HS_ULPI_D2,ETH_MII_RXD3,EVENTOUT/ADC12_IN9", 37 PB2-BOOT1(PB2) (io) "PB2-BOOT1(PB2)/EVENTOUT", 38 PE7 (io) "PE7/TIM1_ETR,UART7_RX,FMC_D4,EVENTOUT", 39 PE8 (io) "PE8/TIM1_CH1N,UART7_TX,FMC_D5,EVENTOUT", 40 PE9 (io) "PE9/TIM1_CH1,FMC_D6,EVENTOUT", 41 PE10 (io) "PE10/TIM1_CH2N,FMC_D7,EVENTOUT", 42 PE11 (io) "PE11/TIM1_CH2,SPI4_NSS,FMC_D8,LCD_G3,EVENTOUT", 43 PE12 (io) "PE12/TIM1_CH3N,SPI4_SCK,FMC_D9,LCD_B4,EVENTOUT", 44 PE13 (io) "PE13/TIM1_CH3,SPI4_MISO,FMC_D10,LCD_DE,EVENTOUT", 45 PE14 (io) "PE14/TIM1_CH4,SPI4_MOSI,FMC_D11,LCD_CLK,EVENTOUT", 46 PE15 (io) "PE15/TIM1_BKIN,FMC_D12,LCD_R7,EVENTOUT", 47 PB10 (io) "PB10/TIM2_CH3,I2C2_SCL,SPI2_SCK/I2S2_CK,USART3_TX,OTG_HS_ULPI_D3,ETH_MII_RX_ER,LCD_G4,EVENTOUT", 48 PB11 (io) "PB11/TIM2_CH4,I2C2_SDA,USART3_RX,OTG_HS_ULPI_D4,ETH_MII_TX_EN/ETH_RMII_TX_EN,LCD_G5,EVENTOUT", 49 VCAP_1 (power), 51 PB12 (io) "PB12/TIM1_BKIN,I2C2_SMBA,SPI2_NSS/I2S2_WS,USART3_CK,CAN2_RX,OTG_HS_ULPI_D5,ETH_MII_TXD0/ETH_RMII_TXD0,OTG_HS_ID,EVENTOUT", 52 PB13 (io) "PB13/TIM1_CH1N,SPI2_SCK/I2S2_CK,USART3_CTS,CAN2_TX,OTG_HS_ULPI_D6,ETH_MII_TXD1/ETH_RMII_TXD1,EVENTOUT/OTG_HS_VBUS", 53 PB14 (io) "PB14/TIM1_CH2N,TIM8_CH2N,SPI2_MISO,I2S2ext_SD,USART3_RTS,TIM12_CH1,EVENTOUT/OTG_HS_DM", 54 PB15 (io) "PB15/RTC_REFIN,TIM1_CH3N,TIM8_CH3N,SPI2_MOSI/I2S2_SD,TIM12_CH2,EVENTOUT/OTG_HS_DP", 55 PD8 (io) "PD8/USART3_TX,FMC_D13,EVENTOUT", 56 PD9 (io) "PD9/USART3_RX,FMC_D14,EVENTOUT", 57 PD10 (io) "PD10/USART3_CK,FMC_D15,LCD_B3,EVENTOUT", 58 PD11 (io) "PD11/USART3_CTS,FMC_A16,EVENTOUT", 59 PD12 (io) "PD12/TIM4_CH1,USART3_RTS,FMC_A17,EVENTOUT", 60 PD13 (io) "PD13/TIM4_CH2,FMC_A18,EVENTOUT", 61 PD14 (io) "PD14/TIM4_CH3,FMC_D0,EVENTOUT", 62 PD15 (io) "PD15/TIM4_CH4,FMC_D1,EVENTOUT", 63 PC6 (io) "PC6/TIM3_CH1,TIM8_CH1,I2S2_MCK,USART6_TX,SDIO_D6,DCMI_D0,LCD_HSYNC,EVENTOUT", 64 PC7 (io) "PC7/TIM3_CH2,TIM8_CH2,I2S3_MCK,USART6_RX,SDIO_D7,DCMI_D1,LCD_G6,EVENTOUT", 65 PC8 (io) "PC8/TIM3_CH3,TIM8_CH3,USART6_CK,SDIO_D0,DCMI_D2,EVENTOUT", 66 PC9 (io) "PC9/MCO2,TIM3_CH4,TIM8_CH4,I2C3_SDA,I2S_CKIN,SDIO_D1,DCMI_D3,EVENTOUT", 67 PA8 (io) "PA8/MCO1,TIM1_CH1,I2C3_SCL,USART1_CK,OTG_FS_SOF,LCD_R6,EVENTOUT", 68 PA9 (io) "PA9/TIM1_CH2,I2C3_SMBA,USART1_TX,DCMI_D0,EVENTOUT/OTG_FS_VBUS", 69 PA10 (io) "PA10/TIM1_CH3,USART1_RX,OTG_FS_ID,DCMI_D1,EVENTOUT", 70 PA11 (io) "PA11/TIM1_CH4,USART1_CTS,CAN1_RX,LCD_R4,EVENTOUT/OTG_FS_DM", 71 PA12 (io) "PA12/TIM1_ETR,USART1_RTS,CAN1_TX,LCD_R5,EVENTOUT/OTG_FS_DP", 72 PA13(JTMS-SWDIO) (io) "PA13(JTMS-SWDIO)/JTMS-SWDIO,EVENTOUT", 73 VCAP_2 (power), 76 PA14(JTCK-SWCLK) (io) "PA14(JTCK-SWCLK)/JTCK-SWCLK/EVENTOUT", 77 PA15(JTDI) (io) "PA15(JTDI)/JTDI,TIM2_CH1/TIM2_ETR,SPI1_NSS,SPI3_NSS/I2S3_WS,EVENTOUT", 78 PC10 (io) "PC10/SPI3_SCK/I2S3_CK,USART3_TX,UART4_TX,SDIO_D2,DCMI_D8,LCD_R2,EVENTOUT", 79 PC11 (io) "PC11/I2S3ext_SD,SPI3_MISO,USART3_RX,UART4_RX,SDIO_D3,DCMI_D4,EVENTOUT", 80 PC12 (io) "PC12/SPI3_MOSI/I2S3_SD,USART3_CK,UART5_TX,SDIO_CK,DCMI_D9,EVENTOUT", 81 PD0 (io) "PD0/CAN1_RX,FMC_D2,EVENTOUT", 82 PD1 (io) "PD1/CAN1_TX,FMC_D3,EVENTOUT", 83 PD2 (io) "PD2/TIM3_ETR,UART5_RX,SDIO_CMD,DCMI_D11,EVENTOUT", 84 PD3 (io) "PD3/SPI2_SCK/I2S2_CK,USART2_CTS,FMC_CLK,DCMI_D5,LCD_G7,EVENTOUT", 85 PD4 (io) "PD4/USART2_RTS,FMC_NOE,EVENTOUT", 86 PD5 (io) "PD5/USART2_TX,FMC_NWE,EVENTOUT", 87 PD6 (io) "PD6/SPI3_MOSI/I2S3_SD,SAI1_SD_A,USART2_RX,FMC_NWAIT,DCMI_D10,LCD_B2,EVENTOUT", 88 PD7 (io) "PD7/USART2_CK,FMC_NE1/FMC_NCE2,EVENTOUT", 89 PB3(JTDO/TRACESWO) (io) "PB3(JTDO/TRACESWO)/JTDO/TRACESWO,TIM2_CH2,SPI1_SCK,SPI3_SCK/I2S3_CK,EVENTOUT", 90 PB4(NJTRST) (io) "PB4(NJTRST)/NJTRST,TIM3_CH1,SPI1_MISO,SPI3_MISO,I2S3ext_SD,EVENTOUT", 91 PB5 (io) "PB5/TIM3_CH2,I2C1_SMBA,SPI1_MOSI,SPI3_MOSI/I2S3_SD,CAN2_RX,OTG_HS_ULPI_D7,ETH_PPS_OUT,FMC_SDCKE1,DCMI_D10,EVENTOUT", 92 PB6 (io) "PB6/TIM4_CH1,I2C1_SCL,USART1_TX,CAN2_TX,FMC_SDNE1,DCMI_D5,EVENTOUT", 93 PB7 (io) "PB7/TIM4_CH2,I2C1_SDA,USART1_RX,FMC_NL,DCMI_VSYNC,EVENTOUT", 94 BOOT0 (in) "BOOT0/VPP", 95 PB8 (io) "PB8/TIM4_CH3,TIM10_CH1,I2C1_SCL,CAN1_RX,ETH_MII_TXD3,SDIO_D4,DCMI_D6,LCD_B6,EVENTOUT", 96 PB9 (io) "PB9/TIM4_CH4,TIM11_CH1,I2C1_SDA,SPI2_NSS/I2S2_WS,CAN1_TX,SDIO_D5,DCMI_D7,LCD_B7,EVENTOUT", 97 PE0 (io) "PE0/TIM4_ETR,UART8_RX,FMC_NBL0,DCMI_D2,EVENTOUT", 98 PE1 (io) "PE1/UART8_TX,FMC_NBL1,DCMI_D3,EVENTOUT"
part B pins: 6 VBAT (power), 10 VSS (power), 11 VDD (power), 19 VDD (power), 20 VSSA (power), 21 VREF+ (power), 22 VDDA (power), 27 VSS (power), 28 VDD (power), 50 VDD (power), 74 VSS (power), 75 VDD (power), 99 VSS (power), 100 VDD (power)

## STM32F439VIT6U
designator U?
ARM Cortex-M4 32-bit MCU+FPU, 225 DMIPS, 2048 kB Flash, 256 kB Internal RAM, 82 I/Os, 100-pin LQFP, -40 to 85 degC, Tray; Manufacturer: STMicroelectronics; PartNumber: STM32F439VIT6U; D/A Converter: 2x12-bit; FLASH Size (Prog) (kB): 2048; I/Os (High Current): 82; Internal RAM Size (kB): 256; Operating Frequency(F) (Processor speed) (MHz): 180; Supply Voltage(Vcc) max (V): 3.6; Supply Voltage(Vcc) min (V): 1.8; DatasheetVersion: Rev. 2; PackageVersion: Rev. 1, 06/2013; PackageReference: LQFP100; PackageDescription: 100-Pin Low Profile Quad Flat Package, 14 x 14 mm Body, 0.5 mm Pitch; Supplier 1: Mouser; Supplier Part Number 1: N/A; Core: ARM Cortex-M4; Packing: Tray; Mounting Technology: Surface Mount; ComponentLink1Description: Manufacturer URL; ComponentLink1URL: http://www.st.com/web/en/home.html; ComponentLink2Description: Datasheet; ComponentLink2URL: http://www.st.com/st-web-ui/static/active/en/resource/technical/document/data_brief/DM00055510.pdf; ComponentLink3Description: Package Specification; ComponentLink3URL: http://www.st.com/st-web-ui/static/active/en/resource/technical/document/data_brief/DM00071938.pdf
footprint STM-LQFP100_N (Thin QFP, 100-Leads, Body 14x14mm, Pitch 0.5mm, IPC Medium Density)
footprint STM-LQFP100_L (Thin QFP, 100-Leads, Body 14x14mm, Pitch 0.5mm, IPC High Density)
footprint STM-LQFP100_M (Thin QFP, 100-Leads, Body 14x14mm, Pitch 0.5mm, IPC Low Density)
footprint STM-LQFP100_V (Thin QFP, 100-Leads, Body 14x14mm, Pitch 0.5mm, ST Recommended)
part A pins: 1 PE2 (io) "PE2/TRACECLK,SPI4_SCK,SAI1_MCLK_A,ETH_MII_TXD3,FMC_A23,EVENTOUT", 2 PE3 (io) "PE3/TRACED0,SAI1_SD_B,FMC_A19,EVENTOUT", 3 PE4 (io) "PE4/TRACED1,SPI4_NSS,SAI1_FS_A,FMC_A20,DCMI_D4,LCD_B0,EVENTOUT", 4 PE5 (io) "PE5/TRACED2,TIM9_CH1,SPI4_MISO,SAI1_SCK_A,FMC_A21,DCMI_D6,LCD_G0,EVENTOUT", 5 PE6 (io) "PE6/TRACED3,TIM9_CH2,SPI4_MOSI,SAI1_SD_A,FMC_A22,DCMI_D7,LCD_G1,EVENTOUT", 7 PC13 (io) "PC13/EVENTOUT/TAMP_1", 8 PC14-OSC32_IN(PC14) (io) "PC14-OSC32_IN(PC14)/EVENTOUT/OSC32_IN", 9 PC15-OSC32_OUT(PC15) (io) "PC15-OSC32_OUT(PC15)/EVENTOUT/OSC32_OUT", 12 PH0-OSC_IN(PH0) (io) "PH0-OSC_IN(PH0)/EVENTOUT/OSC_IN", 13 PH1-OSC_OUT(PH1) (io) "PH1-OSC_OUT(PH1)/EVENTOUT/OSC_OUT", 14 NRST (io), 15 PC0 (io) "PC0/OTG_HS_ULPI_STP,FMC_SDNWE,EVENTOUT/ADC123_IN10", 16 PC1 (io) "PC1/ETH_MDC,EVENTOUT/ADC123_IN11", 17 PC2 (io) "PC2/SPI2_MISO,I2S2ext_SD,OTG_HS_ULPI_DIR,ETH_MII_TXD2,FMC_SDNE0,EVENTOUT/ADC123_IN12", 18 PC3 (io) "PC3/SPI2_MOSI/I2S2_SD,OTG_HS_ULPI_NXT,ETH_MII_TX_CLK,FMC_SDCKE0,EVENTOUT/ADC123_IN13", 23 PA0-WKUP(PA0) (io) "PA0-WKUP(PA0)/TIM2_CH1/TIM2_ETR,TIM5_CH1,TIM8_ETR,USART2_CTS,UART4_TX,ETH_MII_CRS,EVENTOUT/ADC123_IN0/WKUP", 24 PA1 (io) "PA1/TIM2_CH2,TIM5_CH2,USART2_RTS,UART4_RX,ETH_MII_RX_CLK/ETH_RMII_REF_CLK,EVENTOUT/ADC123_IN1", 25 PA2 (io) "PA2/TIM2_CH3,TIM5_CH3,TIM9_CH1,USART2_TX,ETH_MDIO,EVENTOUT/ADC123_IN2", 26 PA3 (io) "PA3/TIM2_CH4,TIM5_CH4,TIM9_CH2,USART2_RX,OTG_HS_ULPI_D0,ETH_MII_COL,LCD_B5,EVENTOUT/ADC123_IN3", 29 PA4 (io) "PA4/SPI1_NSS,SPI3_NSS/I2S3_WS,USART2_CK,OTG_HS_SOF,DCMI_HSYNC,LCD_VSYNC,EVENTOUT/ADC12_IN4/DAC_OUT1", 30 PA5 (io) "PA5/TIM2_CH1/TIM2_ETR,TIM8_CH1N,SPI1_SCK,OTG_HS_ULPI_CK,EVENTOUT/ADC12_IN5/DAC_OUT2", 31 PA6 (io) "PA6/TIM1_BKIN,TIM3_CH1,TIM8_BKIN,SPI1_MISO,TIM13_CH1,DCMI_PIXCLK,LCD_G2,EVENTOUT/ADC12_IN6", 32 PA7 (io) "PA7/TIM1_CH1N,TIM3_CH2,TIM8_CH1N,SPI1_MOSI,TIM14_CH1,ETH_MII_RX_DV/ETH_RMII_CRS_DV,EVENTOUT/ADC12_IN7", 33 PC4 (io) "PC4/ETH_MII_RXD0/ETH_RMII_RXD0,EVENTOUT/ADC12_IN14", 34 PC5 (io) "PC5/ETH_MII_RXD1/ETH_RMII_RXD1,EVENTOUT/ADC12_IN15", 35 PB0 (io) "PB0/TIM1_CH2N,TIM3_CH3,TIM8_CH2N,LCD_R3,OTG_HS_ULPI_D1,ETH_MII_RXD2,EVENTOUT/ADC12_IN8", 36 PB1 (io) "PB1/TIM1_CH3N,TIM3_CH4,TIM8_CH3N,LCD_R6,OTG_HS_ULPI_D2,ETH_MII_RXD3,EVENTOUT/ADC12_IN9", 37 PB2-BOOT1(PB2) (io) "PB2-BOOT1(PB2)/EVENTOUT", 38 PE7 (io) "PE7/TIM1_ETR,UART7_RX,FMC_D4,EVENTOUT", 39 PE8 (io) "PE8/TIM1_CH1N,UART7_TX,FMC_D5,EVENTOUT", 40 PE9 (io) "PE9/TIM1_CH1,FMC_D6,EVENTOUT", 41 PE10 (io) "PE10/TIM1_CH2N,FMC_D7,EVENTOUT", 42 PE11 (io) "PE11/TIM1_CH2,SPI4_NSS,FMC_D8,LCD_G3,EVENTOUT", 43 PE12 (io) "PE12/TIM1_CH3N,SPI4_SCK,FMC_D9,LCD_B4,EVENTOUT", 44 PE13 (io) "PE13/TIM1_CH3,SPI4_MISO,FMC_D10,LCD_DE,EVENTOUT", 45 PE14 (io) "PE14/TIM1_CH4,SPI4_MOSI,FMC_D11,LCD_CLK,EVENTOUT", 46 PE15 (io) "PE15/TIM1_BKIN,FMC_D12,LCD_R7,EVENTOUT", 47 PB10 (io) "PB10/TIM2_CH3,I2C2_SCL,SPI2_SCK/I2S2_CK,USART3_TX,OTG_HS_ULPI_D3,ETH_MII_RX_ER,LCD_G4,EVENTOUT", 48 PB11 (io) "PB11/TIM2_CH4,I2C2_SDA,USART3_RX,OTG_HS_ULPI_D4,ETH_MII_TX_EN/ETH_RMII_TX_EN,LCD_G5,EVENTOUT", 49 VCAP_1 (power), 51 PB12 (io) "PB12/TIM1_BKIN,I2C2_SMBA,SPI2_NSS/I2S2_WS,USART3_CK,CAN2_RX,OTG_HS_ULPI_D5,ETH_MII_TXD0/ETH_RMII_TXD0,OTG_HS_ID,EVENTOUT", 52 PB13 (io) "PB13/TIM1_CH1N,SPI2_SCK/I2S2_CK,USART3_CTS,CAN2_TX,OTG_HS_ULPI_D6,ETH_MII_TXD1/ETH_RMII_TXD1,EVENTOUT/OTG_HS_VBUS", 53 PB14 (io) "PB14/TIM1_CH2N,TIM8_CH2N,SPI2_MISO,I2S2ext_SD,USART3_RTS,TIM12_CH1,EVENTOUT/OTG_HS_DM", 54 PB15 (io) "PB15/RTC_REFIN,TIM1_CH3N,TIM8_CH3N,SPI2_MOSI/I2S2_SD,TIM12_CH2,EVENTOUT/OTG_HS_DP", 55 PD8 (io) "PD8/USART3_TX,FMC_D13,EVENTOUT", 56 PD9 (io) "PD9/USART3_RX,FMC_D14,EVENTOUT", 57 PD10 (io) "PD10/USART3_CK,FMC_D15,LCD_B3,EVENTOUT", 58 PD11 (io) "PD11/USART3_CTS,FMC_A16,EVENTOUT", 59 PD12 (io) "PD12/TIM4_CH1,USART3_RTS,FMC_A17,EVENTOUT", 60 PD13 (io) "PD13/TIM4_CH2,FMC_A18,EVENTOUT", 61 PD14 (io) "PD14/TIM4_CH3,FMC_D0,EVENTOUT", 62 PD15 (io) "PD15/TIM4_CH4,FMC_D1,EVENTOUT", 63 PC6 (io) "PC6/TIM3_CH1,TIM8_CH1,I2S2_MCK,USART6_TX,SDIO_D6,DCMI_D0,LCD_HSYNC,EVENTOUT", 64 PC7 (io) "PC7/TIM3_CH2,TIM8_CH2,I2S3_MCK,USART6_RX,SDIO_D7,DCMI_D1,LCD_G6,EVENTOUT", 65 PC8 (io) "PC8/TIM3_CH3,TIM8_CH3,USART6_CK,SDIO_D0,DCMI_D2,EVENTOUT", 66 PC9 (io) "PC9/MCO2,TIM3_CH4,TIM8_CH4,I2C3_SDA,I2S_CKIN,SDIO_D1,DCMI_D3,EVENTOUT", 67 PA8 (io) "PA8/MCO1,TIM1_CH1,I2C3_SCL,USART1_CK,OTG_FS_SOF,LCD_R6,EVENTOUT", 68 PA9 (io) "PA9/TIM1_CH2,I2C3_SMBA,USART1_TX,DCMI_D0,EVENTOUT/OTG_FS_VBUS", 69 PA10 (io) "PA10/TIM1_CH3,USART1_RX,OTG_FS_ID,DCMI_D1,EVENTOUT", 70 PA11 (io) "PA11/TIM1_CH4,USART1_CTS,CAN1_RX,LCD_R4,EVENTOUT/OTG_FS_DM", 71 PA12 (io) "PA12/TIM1_ETR,USART1_RTS,CAN1_TX,LCD_R5,EVENTOUT/OTG_FS_DP", 72 PA13(JTMS-SWDIO) (io) "PA13(JTMS-SWDIO)/JTMS-SWDIO,EVENTOUT", 73 VCAP_2 (power), 76 PA14(JTCK-SWCLK) (io) "PA14(JTCK-SWCLK)/JTCK-SWCLK/EVENTOUT", 77 PA15(JTDI) (io) "PA15(JTDI)/JTDI,TIM2_CH1/TIM2_ETR,SPI1_NSS,SPI3_NSS/I2S3_WS,EVENTOUT", 78 PC10 (io) "PC10/SPI3_SCK/I2S3_CK,USART3_TX,UART4_TX,SDIO_D2,DCMI_D8,LCD_R2,EVENTOUT", 79 PC11 (io) "PC11/I2S3ext_SD,SPI3_MISO,USART3_RX,UART4_RX,SDIO_D3,DCMI_D4,EVENTOUT", 80 PC12 (io) "PC12/SPI3_MOSI/I2S3_SD,USART3_CK,UART5_TX,SDIO_CK,DCMI_D9,EVENTOUT", 81 PD0 (io) "PD0/CAN1_RX,FMC_D2,EVENTOUT", 82 PD1 (io) "PD1/CAN1_TX,FMC_D3,EVENTOUT", 83 PD2 (io) "PD2/TIM3_ETR,UART5_RX,SDIO_CMD,DCMI_D11,EVENTOUT", 84 PD3 (io) "PD3/SPI2_SCK/I2S2_CK,USART2_CTS,FMC_CLK,DCMI_D5,LCD_G7,EVENTOUT", 85 PD4 (io) "PD4/USART2_RTS,FMC_NOE,EVENTOUT", 86 PD5 (io) "PD5/USART2_TX,FMC_NWE,EVENTOUT", 87 PD6 (io) "PD6/SPI3_MOSI/I2S3_SD,SAI1_SD_A,USART2_RX,FMC_NWAIT,DCMI_D10,LCD_B2,EVENTOUT", 88 PD7 (io) "PD7/USART2_CK,FMC_NE1/FMC_NCE2,EVENTOUT", 89 PB3(JTDO/TRACESWO) (io) "PB3(JTDO/TRACESWO)/JTDO/TRACESWO,TIM2_CH2,SPI1_SCK,SPI3_SCK/I2S3_CK,EVENTOUT", 90 PB4(NJTRST) (io) "PB4(NJTRST)/NJTRST,TIM3_CH1,SPI1_MISO,SPI3_MISO,I2S3ext_SD,EVENTOUT", 91 PB5 (io) "PB5/TIM3_CH2,I2C1_SMBA,SPI1_MOSI,SPI3_MOSI/I2S3_SD,CAN2_RX,OTG_HS_ULPI_D7,ETH_PPS_OUT,FMC_SDCKE1,DCMI_D10,EVENTOUT", 92 PB6 (io) "PB6/TIM4_CH1,I2C1_SCL,USART1_TX,CAN2_TX,FMC_SDNE1,DCMI_D5,EVENTOUT", 93 PB7 (io) "PB7/TIM4_CH2,I2C1_SDA,USART1_RX,FMC_NL,DCMI_VSYNC,EVENTOUT", 94 BOOT0 (in) "BOOT0/VPP", 95 PB8 (io) "PB8/TIM4_CH3,TIM10_CH1,I2C1_SCL,CAN1_RX,ETH_MII_TXD3,SDIO_D4,DCMI_D6,LCD_B6,EVENTOUT", 96 PB9 (io) "PB9/TIM4_CH4,TIM11_CH1,I2C1_SDA,SPI2_NSS/I2S2_WS,CAN1_TX,SDIO_D5,DCMI_D7,LCD_B7,EVENTOUT", 97 PE0 (io) "PE0/TIM4_ETR,UART8_RX,FMC_NBL0,DCMI_D2,EVENTOUT", 98 PE1 (io) "PE1/UART8_TX,FMC_NBL1,DCMI_D3,EVENTOUT"
part B pins: 6 VBAT (power), 10 VSS (power), 11 VDD (power), 19 VDD (power), 20 VSSA (power), 21 VREF+ (power), 22 VDDA (power), 27 VSS (power), 28 VDD (power), 50 VDD (power), 74 VSS (power), 75 VDD (power), 99 VSS (power), 100 VDD (power)

## STM32F439ZGT6
designator U?
ARM Cortex-M4 32-bit MCU+FPU, 225 DMIPS, 1024 kB Flash, 256 kB Internal RAM, 114 I/Os, 144-pin LQFP, -40 to 85 degC, Tray; Manufacturer: STMicroelectronics; PartNumber: STM32F439ZGT6; D/A Converter: 2x12-bit; FLASH Size (Prog) (kB): 1024; I/Os (High Current): 114; Internal RAM Size (kB): 256; Operating Frequency(F) (Processor speed) (MHz): 180; Supply Voltage(Vcc) max (V): 3.6; Supply Voltage(Vcc) min (V): 1.8; DatasheetVersion: Rev. 2; PackageVersion: Rev. 4, 06/2013; PackageReference: LQFP144; PackageDescription: 144-Pin Low Profile Quad Flat Package, 20 x 20 mm Body, 0.5 mm Pitch; Supplier 1: Digi-Key; Supplier Part Number 1: STM32F439ZGT6-ND; Supplier 2: Newark; Supplier Part Number 2: 06X3686; Supplier 3: Mouser; Supplier Part Number 3: 511-STM32F439ZGT6; Core: ARM Cortex-M4; Packing: Tray; Mounting Technology: Surface Mount; ComponentLink1Description: Manufacturer URL; ComponentLink1URL: http://www.st.com/web/en/home.html; ComponentLink2Description: Datasheet; ComponentLink2URL: http://www.st.com/st-web-ui/static/active/en/resource/technical/document/data_brief/DM00055510.pdf; ComponentLink3Description: Package Specification; ComponentLink3URL: http://www.st.com/st-web-ui/static/active/en/resource/technical/document/datasheet/DM00037051.pdf
footprint STM-LQFP144_N (Thin QFP, 144-Leads, Body 20x20mm, Pitch 0.5mm, IPC Medium Density)
footprint STM-LQFP144_L (Thin QFP, 144-Leads, Body 20x20mm, Pitch 0.5mm, IPC High Density)
footprint STM-LQFP144_M (Thin QFP, 144-Leads, Body 20x20mm, Pitch 0.5mm, IPC Low Density)
footprint STM-LQFP144_V (Thin QFP, 144-Leads, Body 20x20mm, Pitch 0.5mm, ST Recommended)
part A pins: 7 PC13 (io) "PC13/EVENTOUT/TAMP_1", 8 PC14-OSC32_IN(PC14) (io) "PC14-OSC32_IN(PC14)/EVENTOUT/OSC32_IN", 9 PC15-OSC32_OUT(PC15) (io) "PC15-OSC32_OUT(PC15)/EVENTOUT/OSC32_OUT", 26 PC0 (io) "PC0/OTG_HS_ULPI_STP,FMC_SDNWE,EVENTOUT/ADC123_IN10", 27 PC1 (io) "PC1/ETH_MDC,EVENTOUT/ADC123_IN11", 28 PC2 (io) "PC2/SPI2_MISO,I2S2ext_SD,OTG_HS_ULPI_DIR,ETH_MII_TXD2,FMC_SDNE0,EVENTOUT/ADC123_IN12", 29 PC3 (io) "PC3/SPI2_MOSI/I2S2_SD,OTG_HS_ULPI_NXT,ETH_MII_TX_CLK,FMC_SDCKE0,EVENTOUT/ADC123_IN13", 34 PA0-WKUP(PA0) (io) "PA0-WKUP(PA0)/TIM2_CH1/TIM2_ETR,TIM5_CH1,TIM8_ETR,USART2_CTS,UART4_TX,ETH_MII_CRS,EVENTOUT/ADC123_IN0/WKUP", 35 PA1 (io) "PA1/TIM2_CH2,TIM5_CH2,USART2_RTS,UART4_RX,ETH_MII_RX_CLK/ETH_RMII_REF_CLK,EVENTOUT/ADC123_IN1", 36 PA2 (io) "PA2/TIM2_CH3,TIM5_CH3,TIM9_CH1,USART2_TX,ETH_MDIO,EVENTOUT/ADC123_IN2", 37 PA3 (io) "PA3/TIM2_CH4,TIM5_CH4,TIM9_CH2,USART2_RX,OTG_HS_ULPI_D0,ETH_MII_COL,LCD_B5,EVENTOUT/ADC123_IN3", 40 PA4 (io) "PA4/SPI1_NSS,SPI3_NSS/I2S3_WS,USART2_CK,OTG_HS_SOF,DCMI_HSYNC,LCD_VSYNC,EVENTOUT/ADC12_IN4/DAC_OUT1", 41 PA5 (io) "PA5/TIM2_CH1/TIM2_ETR,TIM8_CH1N,SPI1_SCK,OTG_HS_ULPI_CK,EVENTOUT/ADC12_IN5/DAC_OUT2", 42 PA6 (io) "PA6/TIM1_BKIN,TIM3_CH1,TIM8_BKIN,SPI1_MISO,TIM13_CH1,DCMI_PIXCLK,LCD_G2,EVENTOUT/ADC12_IN6", 43 PA7 (io) "PA7/TIM1_CH1N,TIM3_CH2,TIM8_CH1N,SPI1_MOSI,TIM14_CH1,ETH_MII_RX_DV/ETH_RMII_CRS_DV,EVENTOUT/ADC12_IN7", 44 PC4 (io) "PC4/ETH_MII_RXD0/ETH_RMII_RXD0,EVENTOUT/ADC12_IN14", 45 PC5 (io) "PC5/ETH_MII_RXD1/ETH_RMII_RXD1,EVENTOUT/ADC12_IN15", 46 PB0 (io) "PB0/TIM1_CH2N,TIM3_CH3,TIM8_CH2N,LCD_R3,OTG_HS_ULPI_D1,ETH_MII_RXD2,EVENTOUT/ADC12_IN8", 47 PB1 (io) "PB1/TIM1_CH3N,TIM3_CH4,TIM8_CH3N,LCD_R6,OTG_HS_ULPI_D2,ETH_MII_RXD3,EVENTOUT/ADC12_IN9", 48 PB2-BOOT1(PB2) (io) "PB2-BOOT1(PB2)/EVENTOUT", 69 PB10 (io) "PB10/TIM2_CH3,I2C2_SCL,SPI2_SCK/I2S2_CK,USART3_TX,OTG_HS_ULPI_D3,ETH_MII_RX_ER,LCD_G4,EVENTOUT", 70 PB11 (io) "PB11/TIM2_CH4,I2C2_SDA,USART3_RX,OTG_HS_ULPI_D4,ETH_MII_TX_EN/ETH_RMII_TX_EN,LCD_G5,EVENTOUT", 73 PB12 (io) "PB12/TIM1_BKIN,I2C2_SMBA,SPI2_NSS/I2S2_WS,USART3_CK,CAN2_RX,OTG_HS_ULPI_D5,ETH_MII_TXD0/ETH_RMII_TXD0,OTG_HS_ID,EVENTOUT", 74 PB13 (io) "PB13/TIM1_CH1N,SPI2_SCK/I2S2_CK,USART3_CTS,CAN2_TX,OTG_HS_ULPI_D6,ETH_MII_TXD1/ETH_RMII_TXD1,EVENTOUT/OTG_HS_VBUS", 75 PB14 (io) "PB14/TIM1_CH2N,TIM8_CH2N,SPI2_MISO,I2S2ext_SD,USART3_RTS,TIM12_CH1,EVENTOUT/OTG_HS_DM", 76 PB15 (io) "PB15/RTC_REFIN,TIM1_CH3N,TIM8_CH3N,SPI2_MOSI/I2S2_SD,TIM12_CH2,EVENTOUT/OTG_HS_DP", 77 PD8 (io) "PD8/USART3_TX,FMC_D13,EVENTOUT", 78 PD9 (io) "PD9/USART3_RX,FMC_D14,EVENTOUT", 79 PD10 (io) "PD10/USART3_CK,FMC_D15,LCD_B3,EVENTOUT", 80 PD11 (io) "PD11/USART3_CTS,FMC_A16,EVENTOUT", 81 PD12 (io) "PD12/TIM4_CH1,USART3_RTS,FMC_A17,EVENTOUT", 82 PD13 (io) "PD13/TIM4_CH2,FMC_A18,EVENTOUT", 85 PD14 (io) "PD14/TIM4_CH3,FMC_D0,EVENTOUT", 86 PD15 (io) "PD15/TIM4_CH4,FMC_D1,EVENTOUT", 96 PC6 (io) "PC6/TIM3_CH1,TIM8_CH1,I2S2_MCK,USART6_TX,SDIO_D6,DCMI_D0,LCD_HSYNC,EVENTOUT", 97 PC7 (io) "PC7/TIM3_CH2,TIM8_CH2,I2S3_MCK,USART6_RX,SDIO_D7,DCMI_D1,LCD_G6,EVENTOUT", 98 PC8 (io) "PC8/TIM3_CH3,TIM8_CH3,USART6_CK,SDIO_D0,DCMI_D2,EVENTOUT", 99 PC9 (io) "PC9/MCO2,TIM3_CH4,TIM8_CH4,I2C3_SDA,I2S_CKIN,SDIO_D1,DCMI_D3,EVENTOUT", 100 PA8 (io) "PA8/MCO1,TIM1_CH1,I2C3_SCL,USART1_CK,OTG_FS_SOF,LCD_R6,EVENTOUT", 101 PA9 (io) "PA9/TIM1_CH2,I2C3_SMBA,USART1_TX,DCMI_D0,EVENTOUT/OTG_FS_VBUS", 102 PA10 (io) "PA10/TIM1_CH3,USART1_RX,OTG_FS_ID,DCMI_D1,EVENTOUT", 103 PA11 (io) "PA11/TIM1_CH4,USART1_CTS,CAN1_RX,LCD_R4,EVENTOUT/OTG_FS_DM", 104 PA12 (io) "PA12/TIM1_ETR,USART1_RTS,CAN1_TX,LCD_R5,EVENTOUT/OTG_FS_DP", 105 PA13(JTMS-SWDIO) (io) "PA13(JTMS-SWDIO)/JTMS-SWDIO,EVENTOUT", 109 PA14(JTCK-SWCLK) (io) "PA14(JTCK-SWCLK)/JTCK-SWCLK/EVENTOUT", 110 PA15(JTDI) (io) "PA15(JTDI)/JTDI,TIM2_CH1/TIM2_ETR,SPI1_NSS,SPI3_NSS/I2S3_WS,EVENTOUT", 111 PC10 (io) "PC10/SPI3_SCK/I2S3_CK,USART3_TX,UART4_TX,SDIO_D2,DCMI_D8,LCD_R2,EVENTOUT", 112 PC11 (io) "PC11/I2S3ext_SD,SPI3_MISO,USART3_RX,UART4_RX,SDIO_D3,DCMI_D4,EVENTOUT", 113 PC12 (io) "PC12/SPI3_MOSI/I2S3_SD,USART3_CK,UART5_TX,SDIO_CK,DCMI_D9,EVENTOUT", 114 PD0 (io) "PD0/CAN1_RX,FMC_D2,EVENTOUT", 115 PD1 (io) "PD1/CAN1_TX,FMC_D3,EVENTOUT", 116 PD2 (io) "PD2/TIM3_ETR,UART5_RX,SDIO_CMD,DCMI_D11,EVENTOUT", 117 PD3 (io) "PD3/SPI2_SCK/I2S2_CK,USART2_CTS,FMC_CLK,DCMI_D5,LCD_G7,EVENTOUT", 118 PD4 (io) "PD4/USART2_RTS,FMC_NOE,EVENTOUT", 119 PD5 (io) "PD5/USART2_TX,FMC_NWE,EVENTOUT", 122 PD6 (io) "PD6/SPI3_MOSI/I2S3_SD,SAI1_SD_A,USART2_RX,FMC_NWAIT,DCMI_D10,LCD_B2,EVENTOUT", 123 PD7 (io) "PD7/USART2_CK,FMC_NE1/FMC_NCE2,EVENTOUT", 133 PB3(JTDO/TRACESWO) (io) "PB3(JTDO/TRACESWO)/JTDO/TRACESWO,TIM2_CH2,SPI1_SCK,SPI3_SCK/I2S3_CK,EVENTOUT", 134 PB4(NJTRST) (io) "PB4(NJTRST)/NJTRST,TIM3_CH1,SPI1_MISO,SPI3_MISO,I2S3ext_SD,EVENTOUT", 135 PB5 (io) "PB5/TIM3_CH2,I2C1_SMBA,SPI1_MOSI,SPI3_MOSI/I2S3_SD,CAN2_RX,OTG_HS_ULPI_D7,ETH_PPS_OUT,FMC_SDCKE1,DCMI_D10,EVENTOUT", 136 PB6 (io) "PB6/TIM4_CH1,I2C1_SCL,USART1_TX,CAN2_TX,FMC_SDNE1,DCMI_D5,EVENTOUT", 137 PB7 (io) "PB7/TIM4_CH2,I2C1_SDA,USART1_RX,FMC_NL,DCMI_VSYNC,EVENTOUT", 139 PB8 (io) "PB8/TIM4_CH3,TIM10_CH1,I2C1_SCL,CAN1_RX,ETH_MII_TXD3,SDIO_D4,DCMI_D6,LCD_B6,EVENTOUT", 140 PB9 (io) "PB9/TIM4_CH4,TIM11_CH1,I2C1_SDA,SPI2_NSS/I2S2_WS,CAN1_TX,SDIO_D5,DCMI_D7,LCD_B7,EVENTOUT"
part B pins: 1 PE2 (io) "PE2/TRACECLK,SPI4_SCK,SAI1_MCLK_A,ETH_MII_TXD3,FMC_A23,EVENTOUT", 2 PE3 (io) "PE3/TRACED0,SAI1_SD_B,FMC_A19,EVENTOUT", 3 PE4 (io) "PE4/TRACED1,SPI4_NSS,SAI1_FS_A,FMC_A20,DCMI_D4,LCD_B0,EVENTOUT", 4 PE5 (io) "PE5/TRACED2,TIM9_CH1,SPI4_MISO,SAI1_SCK_A,FMC_A21,DCMI_D6,LCD_G0,EVENTOUT", 5 PE6 (io) "PE6/TRACED3,TIM9_CH2,SPI4_MOSI,SAI1_SD_A,FMC_A22,DCMI_D7,LCD_G1,EVENTOUT", 10 PF0 (io) "PF0/I2C2_SDA,FMC_A0,EVENTOUT", 11 PF1 (io) "PF1/I2C2_SCL,FMC_A1,EVENTOUT", 12 PF2 (io) "PF2/I2C2_SMBA,FMC_A2,EVENTOUT", 13 PF3 (io) "PF3/FMC_A3,EVENTOUT/ADC3_IN9", 14 PF4 (io) "PF4/FMC_A4,EVENTOUT/ADC3_IN14", 15 PF5 (io) "PF5/FMC_A5,EVENTOUT/ADC3_IN15", 18 PF6 (io) "PF6/TIM10_CH1,SPI5_NSS,SAI1_SD_B,UART7_RX,FMC_NIORD,EVENTOUT/ADC3_IN4", 19 PF7 (io) "PF7/TIM11_CH1,SPI5_SCK,SAI1_MCLK_B,UART7_TX,FMC_NREG,EVENTOUT/ADC3_IN5", 20 PF8 (io) "PF8/SPI5_MISO,SAI1_SCK_B,TIM13_CH1,FMC_NIOWR,EVENTOUT/ADC3_IN6", 21 PF9 (io) "PF9/SPI5_MOSI,SAI1_FS_B,TIM14_CH1,FMC_CD,EVENTOUT/ADC3_IN7", 22 PF10 (io) "PF10/FMC_INTR,DCMI_D11,LCD_DE,EVENTOUT/ADC3_IN8", 23 PH0-OSC_IN(PH0) (io) "PH0-OSC_IN(PH0)/EVENTOUT/OSC_IN", 24 PH1-OSC_OUT(PH1) (io) "PH1-OSC_OUT(PH1)/EVENTOUT/OSC_OUT", 25 NRST (io), 49 PF11 (io) "PF11/SPI5_MOSI,FMC_SDNRAS,DCMI_D12,EVENTOUT", 50 PF12 (io) "PF12/FMC_A6,EVENTOUT", 53 PF13 (io) "PF13/FMC_A7,EVENTOUT", 54 PF14 (io) "PF14/FMC_A8,EVENTOUT", 55 PF15 (io) "PF15/FMC_A9,EVENTOUT", 56 PG0 (io) "PG0/FMC_A10,EVENTOUT", 57 PG1 (io) "PG1/FMC_A11,EVENTOUT", 58 PE7 (io) "PE7/TIM1_ETR,UART7_RX,FMC_D4,EVENTOUT", 59 PE8 (io) "PE8/TIM1_CH1N,UART7_TX,FMC_D5,EVENTOUT", 60 PE9 (io) "PE9/TIM1_CH1,FMC_D6,EVENTOUT", 63 PE10 (io) "PE10/TIM1_CH2N,FMC_D7,EVENTOUT", 64 PE11 (io) "PE11/TIM1_CH2,SPI4_NSS,FMC_D8,LCD_G3,EVENTOUT", 65 PE12 (io) "PE12/TIM1_CH3N,SPI4_SCK,FMC_D9,LCD_B4,EVENTOUT", 66 PE13 (io) "PE13/TIM1_CH3,SPI4_MISO,FMC_D10,LCD_DE,EVENTOUT", 67 PE14 (io) "PE14/TIM1_CH4,SPI4_MOSI,FMC_D11,LCD_CLK,EVENTOUT", 68 PE15 (io) "PE15/TIM1_BKIN,FMC_D12,LCD_R7,EVENTOUT", 71 VCAP_1 (power), 87 PG2 (io) "PG2/FMC_A12,EVENTOUT", 88 PG3 (io) "PG3/FMC_A13,EVENTOUT", 89 PG4 (io) "PG4/FMC_A14/FMC_BA0,EVENTOUT", 90 PG5 (io) "PG5/FMC_A15/FMC_BA1,EVENTOUT", 91 PG6 (io) "PG6/FMC_INT2,DCMI_D12,LCD_R7,EVENTOUT", 92 PG7 (io) "PG7/USART6_CK,FMC_INT3,DCMI_D13,LCD_CLK,EVENTOUT", 93 PG8 (io) "PG8/SPI6_NSS,USART6_RTS,ETH_PPS_OUT,FMC_SDCLK,EVENTOUT", 106 VCAP_2 (power), 124 PG9 (io) "PG9/USART6_RX,FMC_NE2/FMC_NCE3,EVENTOUT", 125 PG10 (io) "PG10/LCD_G3,FMC_NCE4_1/FMC_NE3,DCMI_D2,LCD_B2,EVENTOUT", 126 PG11 (io) "PG11/ETH_MII_TX_EN/ETH_RMII_TX_EN,FMC_NCE4_2,DCMI_D3,LCD_B3,EVENTOUT", 127 PG12 (io) "PG12/SPI6_MISO,USART6_RTS,LCD_B4,FMC_NE4,LCD_B1,EVENTOUT", 128 PG13 (io) "PG13/SPI6_SCK,USART6_CTS,ETH_MII_TXD0/ETH_RMII_TXD0,FMC_A24,EVENTOUT", 129 PG14 (io) "PG14/SPI6_MOSI,USART6_TX,ETH_MII_TXD1/ETH_RMII_TXD1,FMC_A25,EVENTOUT", 132 PG15 (io) "PG15/USART6_CTS,FMC_SDNCAS,DCMI_D13,EVENTOUT", 138 BOOT0 (in) "BOOT0/VPP", 141 PE0 (io) "PE0/TIM4_ETR,UART8_RX,FMC_NBL0,DCMI_D2,EVENTOUT", 142 PE1 (io) "PE1/UART8_TX,FMC_NBL1,DCMI_D3,EVENTOUT", 143 PDR_ON (in)
part C pins: 6 VBAT (power), 16 VSS (power), 17 VDD (power), 30 VDD (power), 31 VSSA (power), 32 VREF+ (power), 33 VDDA (power), 38 VSS (power), 39 VDD (power), 51 VSS (power), 52 VDD (power), 61 VSS (power), 62 VDD (power), 72 VDD (power), 83 VSS (power), 84 VDD (power), 94 VSS (power), 95 VDD (power), 107 VSS (power), 108 VDD (power), 120 VSS (power), 121 VDD (power), 130 VSS (power), 131 VDD (power), 144 VDD (power)